# Altium schematic symbol library TI Stellaris.SchLib: 293 symbols (part 2 of 7)
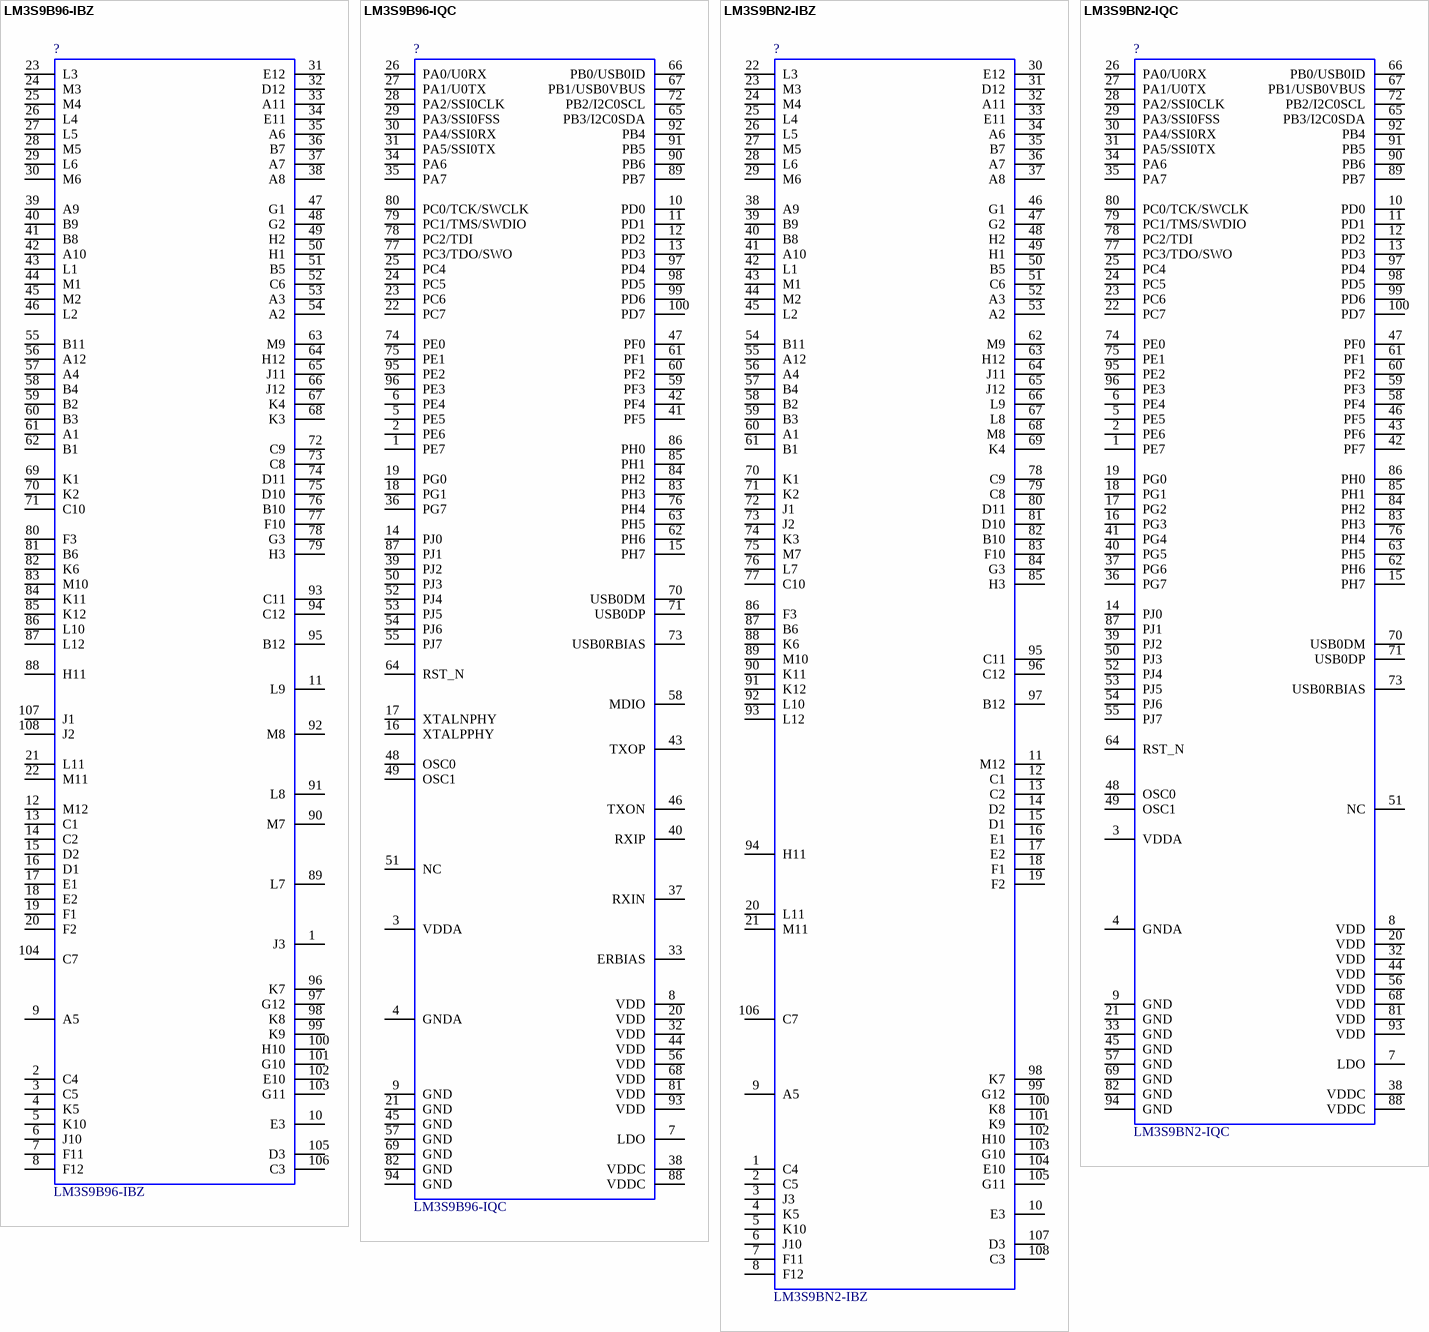
[diagram p70: symbols LM3S9B96-IBZ to LM3S9BN2-IQC]

## LM3S9BN2-IBZ
designator ?
Stellaris ARM Cortex-M3 Microcontroller; Manufacturer #1: Texas Instruments; Stellaris Class: Tempest; Part Number: LM3S9BN2-IBZ
footprint BGA108C80P12X12_1000X1000X150
pins: 1 C4, 2 C5, 3 J3, 4 K5, 5 K10, 6 J10, 7 F11, 8 F12, 9 A5, 10 E3, 11 M12, 12 C1, 13 C2, 14 D2, 15 D1, 16 E1, 17 E2, 18 F1, 19 F2, 20 L11, 21 M11, 22 L3, 23 M3, 24 M4, 25 L4, 26 L5, 27 M5, 28 L6, 29 M6, 30 E12, 31 D12, 32 A11, 33 E11, 34 A6, 35 B7, 36 A7, 37 A8, 38 A9, 39 B9, 40 B8, 41 A10, 42 L1, 43 M1, 44 M2, 45 L2, 46 G1, 47 G2, 48 H2, 49 H1, 50 B5, 51 C6, 52 A3, 53 A2, 54 B11, 55 A12, 56 A4, 57 B4, 58 B2, 59 B3, 60 A1, 61 B1, 62 M9, 63 H12, 64 J11, 65 J12, 66 L9, 67 L8, 68 M8, 69 K4, 70 K1, 71 K2, 72 J1, 73 J2, 74 K3, 75 M7, 76 L7, 77 C10, 78 C9, 79 C8, 80 D11, 81 D10, 82 B10, 83 F10, 84 G3, 85 H3, 86 F3, 87 B6, 88 K6, 89 M10, 90 K11, 91 K12, 92 L10, 93 L12, 94 H11, 95 C11, 96 C12, 97 B12, 98 K7, 99 G12, 100 K8, 101 K9, 102 H10, 103 G10, 104 E10, 105 G11, 106 C7, 107 D3, 108 C3

## LM3S9BN2-IQC
designator ?
Stellaris ARM Cortex-M3 Microcontroller; Manufacturer #1: Texas Instruments; Stellaris Class: Tempest; Part Number: LM3S9BN2-IQC
footprint QFP50P1600X1600X160-100N
pins: 1 PE7, 2 PE6, 3 VDDA, 4 GNDA, 5 PE5, 6 PE4, 7 LDO, 8 VDD, 9 GND, 10 PD0, 11 PD1, 12 PD2, 13 PD3, 14 PJ0, 15 PH7, 16 PG3, 17 PG2, 18 PG1, 19 PG0, 20 VDD, 21 GND, 22 PC7, 23 PC6, 24 PC5, 25 PC4, 26 PA0/U0RX, 27 PA1/U0TX, 28 PA2/SSI0CLK, 29 PA3/SSI0FSS, 30 PA4/SSI0RX, 31 PA5/SSI0TX, 32 VDD, 33 GND, 34 PA6, 35 PA7, 36 PG7, 37 PG6, 38 VDDC, 39 PJ2, 40 PG5, 41 PG4, 42 PF7, 43 PF6, 44 VDD, 45 GND, 46 PF5, 47 PF0, 48 OSC0, 49 OSC1, 50 PJ3, 51 NC, 52 PJ4, 53 PJ5, 54 PJ6, 55 PJ7, 56 VDD, 57 GND, 58 PF4, 59 PF3, 60 PF2, 61 PF1, 62 PH6, 63 PH5, 64 RST_N, 65 PB3/I2C0SDA, 66 PB0/USB0ID, 67 PB1/USB0VBUS, 68 VDD, 69 GND, 70 USB0DM, 71 USB0DP, 72 PB2/I2C0SCL, 73 USB0RBIAS, 74 PE0, 75 PE1, 76 PH4, 77 PC3/TDO/SWO, 78 PC2/TDI, 79 PC1/TMS/SWDIO, 80 PC0/TCK/SWCLK, 81 VDD, 82 GND, 83 PH3, 84 PH2, 85 PH1, 86 PH0, 87 PJ1, 88 VDDC, 89 PB7, 90 PB6, 91 PB5, 92 PB4, 93 VDD, 94 GND, 95 PE2, 96 PE3, 97 PD4, 98 PD5, 99 PD6, 100 PD7

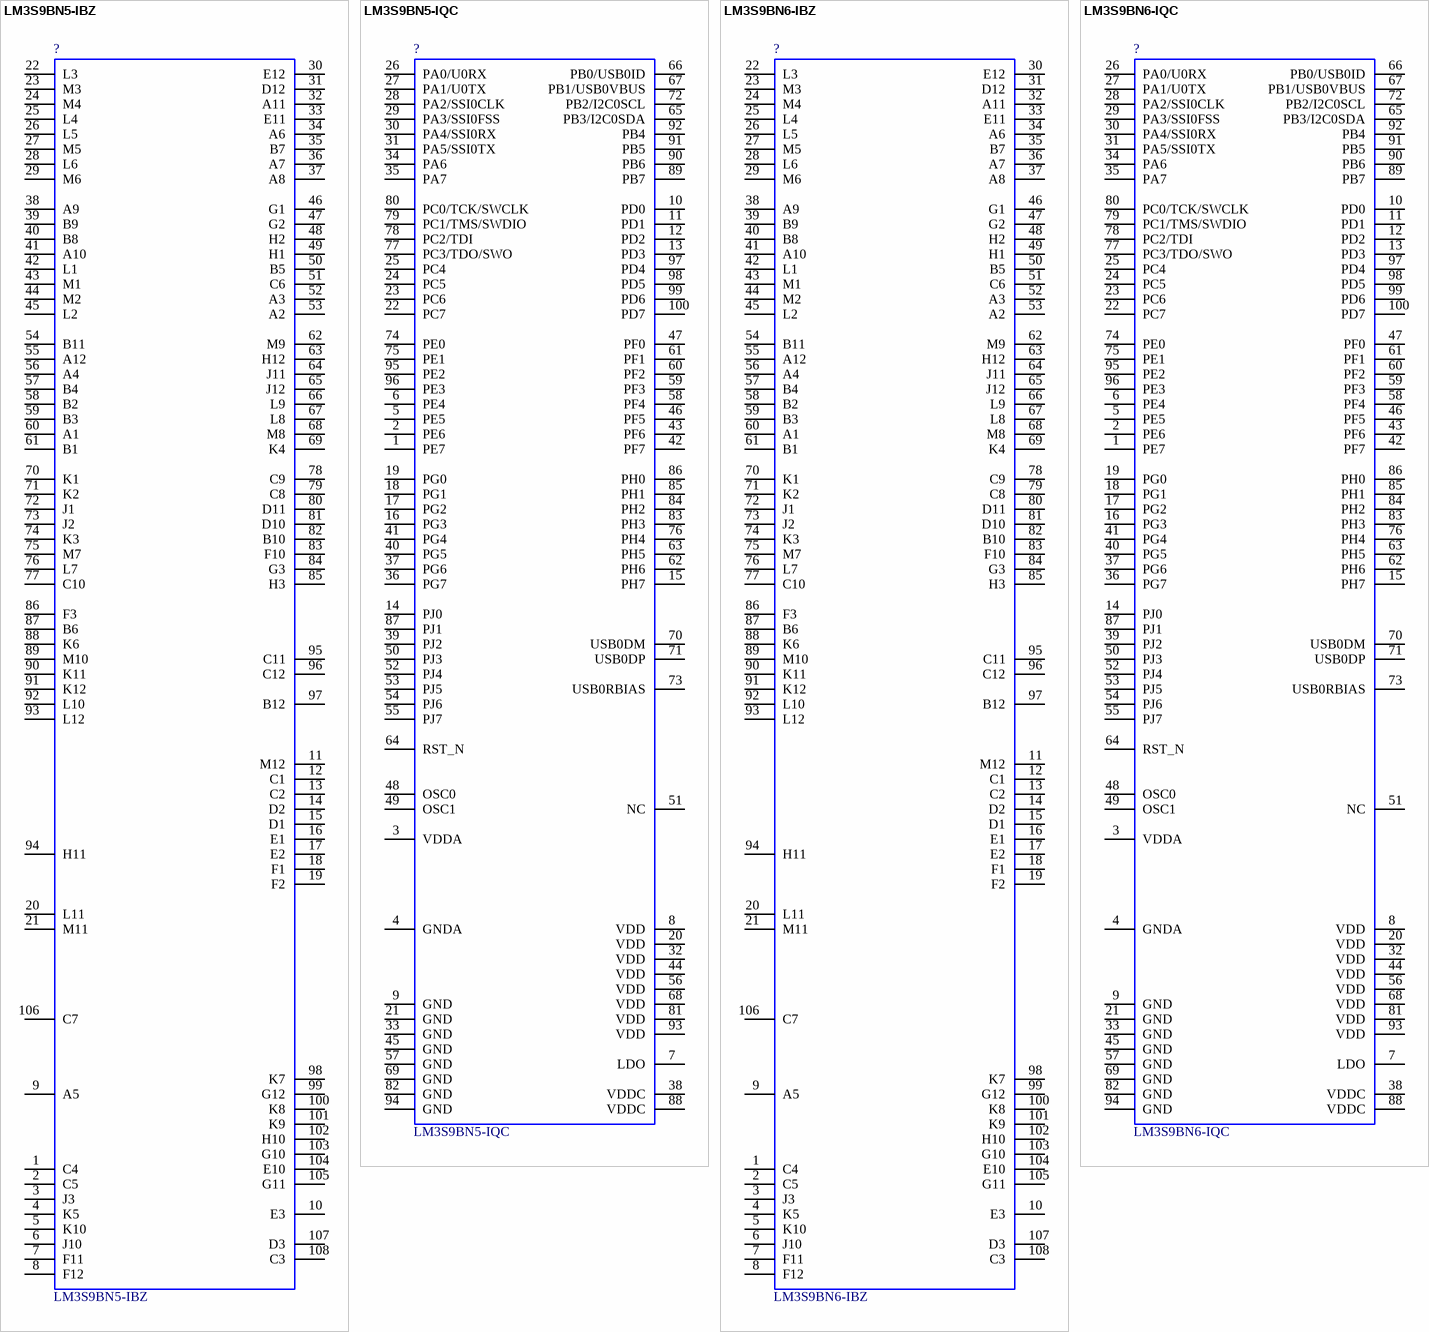
[diagram p13: symbols LM3S9BN5-IBZ to LM3S9BN6-IQC]

## LM3S9BN5-IBZ
designator ?
Stellaris ARM Cortex-M3 Microcontroller; Manufacturer #1: Texas Instruments; Stellaris Class: Tempest; Part Number: LM3S9BN5-IBZ
footprint BGA108C80P12X12_1000X1000X150
pins: 1 C4, 2 C5, 3 J3, 4 K5, 5 K10, 6 J10, 7 F11, 8 F12, 9 A5, 10 E3, 11 M12, 12 C1, 13 C2, 14 D2, 15 D1, 16 E1, 17 E2, 18 F1, 19 F2, 20 L11, 21 M11, 22 L3, 23 M3, 24 M4, 25 L4, 26 L5, 27 M5, 28 L6, 29 M6, 30 E12, 31 D12, 32 A11, 33 E11, 34 A6, 35 B7, 36 A7, 37 A8, 38 A9, 39 B9, 40 B8, 41 A10, 42 L1, 43 M1, 44 M2, 45 L2, 46 G1, 47 G2, 48 H2, 49 H1, 50 B5, 51 C6, 52 A3, 53 A2, 54 B11, 55 A12, 56 A4, 57 B4, 58 B2, 59 B3, 60 A1, 61 B1, 62 M9, 63 H12, 64 J11, 65 J12, 66 L9, 67 L8, 68 M8, 69 K4, 70 K1, 71 K2, 72 J1, 73 J2, 74 K3, 75 M7, 76 L7, 77 C10, 78 C9, 79 C8, 80 D11, 81 D10, 82 B10, 83 F10, 84 G3, 85 H3, 86 F3, 87 B6, 88 K6, 89 M10, 90 K11, 91 K12, 92 L10, 93 L12, 94 H11, 95 C11, 96 C12, 97 B12, 98 K7, 99 G12, 100 K8, 101 K9, 102 H10, 103 G10, 104 E10, 105 G11, 106 C7, 107 D3, 108 C3

## LM3S9BN5-IQC
designator ?
Stellaris ARM Cortex-M3 Microcontroller; Manufacturer #1: Texas Instruments; Stellaris Class: Tempest; Part Number: LM3S9BN5-IQC
footprint QFP50P1600X1600X160-100N
pins: 1 PE7, 2 PE6, 3 VDDA, 4 GNDA, 5 PE5, 6 PE4, 7 LDO, 8 VDD, 9 GND, 10 PD0, 11 PD1, 12 PD2, 13 PD3, 14 PJ0, 15 PH7, 16 PG3, 17 PG2, 18 PG1, 19 PG0, 20 VDD, 21 GND, 22 PC7, 23 PC6, 24 PC5, 25 PC4, 26 PA0/U0RX, 27 PA1/U0TX, 28 PA2/SSI0CLK, 29 PA3/SSI0FSS, 30 PA4/SSI0RX, 31 PA5/SSI0TX, 32 VDD, 33 GND, 34 PA6, 35 PA7, 36 PG7, 37 PG6, 38 VDDC, 39 PJ2, 40 PG5, 41 PG4, 42 PF7, 43 PF6, 44 VDD, 45 GND, 46 PF5, 47 PF0, 48 OSC0, 49 OSC1, 50 PJ3, 51 NC, 52 PJ4, 53 PJ5, 54 PJ6, 55 PJ7, 56 VDD, 57 GND, 58 PF4, 59 PF3, 60 PF2, 61 PF1, 62 PH6, 63 PH5, 64 RST_N, 65 PB3/I2C0SDA, 66 PB0/USB0ID, 67 PB1/USB0VBUS, 68 VDD, 69 GND, 70 USB0DM, 71 USB0DP, 72 PB2/I2C0SCL, 73 USB0RBIAS, 74 PE0, 75 PE1, 76 PH4, 77 PC3/TDO/SWO, 78 PC2/TDI, 79 PC1/TMS/SWDIO, 80 PC0/TCK/SWCLK, 81 VDD, 82 GND, 83 PH3, 84 PH2, 85 PH1, 86 PH0, 87 PJ1, 88 VDDC, 89 PB7, 90 PB6, 91 PB5, 92 PB4, 93 VDD, 94 GND, 95 PE2, 96 PE3, 97 PD4, 98 PD5, 99 PD6, 100 PD7

## LM3S9BN6-IBZ
designator ?
Stellaris ARM Cortex-M3 Microcontroller; Manufacturer #1: Texas Instruments; Part Number: LM3S9BN6-IQC; Stellaris Class: Tempest
footprint BGA108C80P12X12_1000X1000X150
pins: 1 C4, 2 C5, 3 J3, 4 K5, 5 K10, 6 J10, 7 F11, 8 F12, 9 A5, 10 E3, 11 M12, 12 C1, 13 C2, 14 D2, 15 D1, 16 E1, 17 E2, 18 F1, 19 F2, 20 L11, 21 M11, 22 L3, 23 M3, 24 M4, 25 L4, 26 L5, 27 M5, 28 L6, 29 M6, 30 E12, 31 D12, 32 A11, 33 E11, 34 A6, 35 B7, 36 A7, 37 A8, 38 A9, 39 B9, 40 B8, 41 A10, 42 L1, 43 M1, 44 M2, 45 L2, 46 G1, 47 G2, 48 H2, 49 H1, 50 B5, 51 C6, 52 A3, 53 A2, 54 B11, 55 A12, 56 A4, 57 B4, 58 B2, 59 B3, 60 A1, 61 B1, 62 M9, 63 H12, 64 J11, 65 J12, 66 L9, 67 L8, 68 M8, 69 K4, 70 K1, 71 K2, 72 J1, 73 J2, 74 K3, 75 M7, 76 L7, 77 C10, 78 C9, 79 C8, 80 D11, 81 D10, 82 B10, 83 F10, 84 G3, 85 H3, 86 F3, 87 B6, 88 K6, 89 M10, 90 K11, 91 K12, 92 L10, 93 L12, 94 H11, 95 C11, 96 C12, 97 B12, 98 K7, 99 G12, 100 K8, 101 K9, 102 H10, 103 G10, 104 E10, 105 G11, 106 C7, 107 D3, 108 C3

## LM3S9BN6-IQC
designator ?
Stellaris ARM Cortex-M3 Microcontroller; Manufacturer #1: Texas Instruments; Stellaris Class: Tempest; Part Number: LM3S9BN6-IQC
footprint QFP50P1600X1600X160-100N
pins: 1 PE7, 2 PE6, 3 VDDA, 4 GNDA, 5 PE5, 6 PE4, 7 LDO, 8 VDD, 9 GND, 10 PD0, 11 PD1, 12 PD2, 13 PD3, 14 PJ0, 15 PH7, 16 PG3, 17 PG2, 18 PG1, 19 PG0, 20 VDD, 21 GND, 22 PC7, 23 PC6, 24 PC5, 25 PC4, 26 PA0/U0RX, 27 PA1/U0TX, 28 PA2/SSI0CLK, 29 PA3/SSI0FSS, 30 PA4/SSI0RX, 31 PA5/SSI0TX, 32 VDD, 33 GND, 34 PA6, 35 PA7, 36 PG7, 37 PG6, 38 VDDC, 39 PJ2, 40 PG5, 41 PG4, 42 PF7, 43 PF6, 44 VDD, 45 GND, 46 PF5, 47 PF0, 48 OSC0, 49 OSC1, 50 PJ3, 51 NC, 52 PJ4, 53 PJ5, 54 PJ6, 55 PJ7, 56 VDD, 57 GND, 58 PF4, 59 PF3, 60 PF2, 61 PF1, 62 PH6, 63 PH5, 64 RST_N, 65 PB3/I2C0SDA, 66 PB0/USB0ID, 67 PB1/USB0VBUS, 68 VDD, 69 GND, 70 USB0DM, 71 USB0DP, 72 PB2/I2C0SCL, 73 USB0RBIAS, 74 PE0, 75 PE1, 76 PH4, 77 PC3/TDO/SWO, 78 PC2/TDI, 79 PC1/TMS/SWDIO, 80 PC0/TCK/SWCLK, 81 VDD, 82 GND, 83 PH3, 84 PH2, 85 PH1, 86 PH0, 87 PJ1, 88 VDDC, 89 PB7, 90 PB6, 91 PB5, 92 PB4, 93 VDD, 94 GND, 95 PE2, 96 PE3, 97 PD4, 98 PD5, 99 PD6, 100 PD7

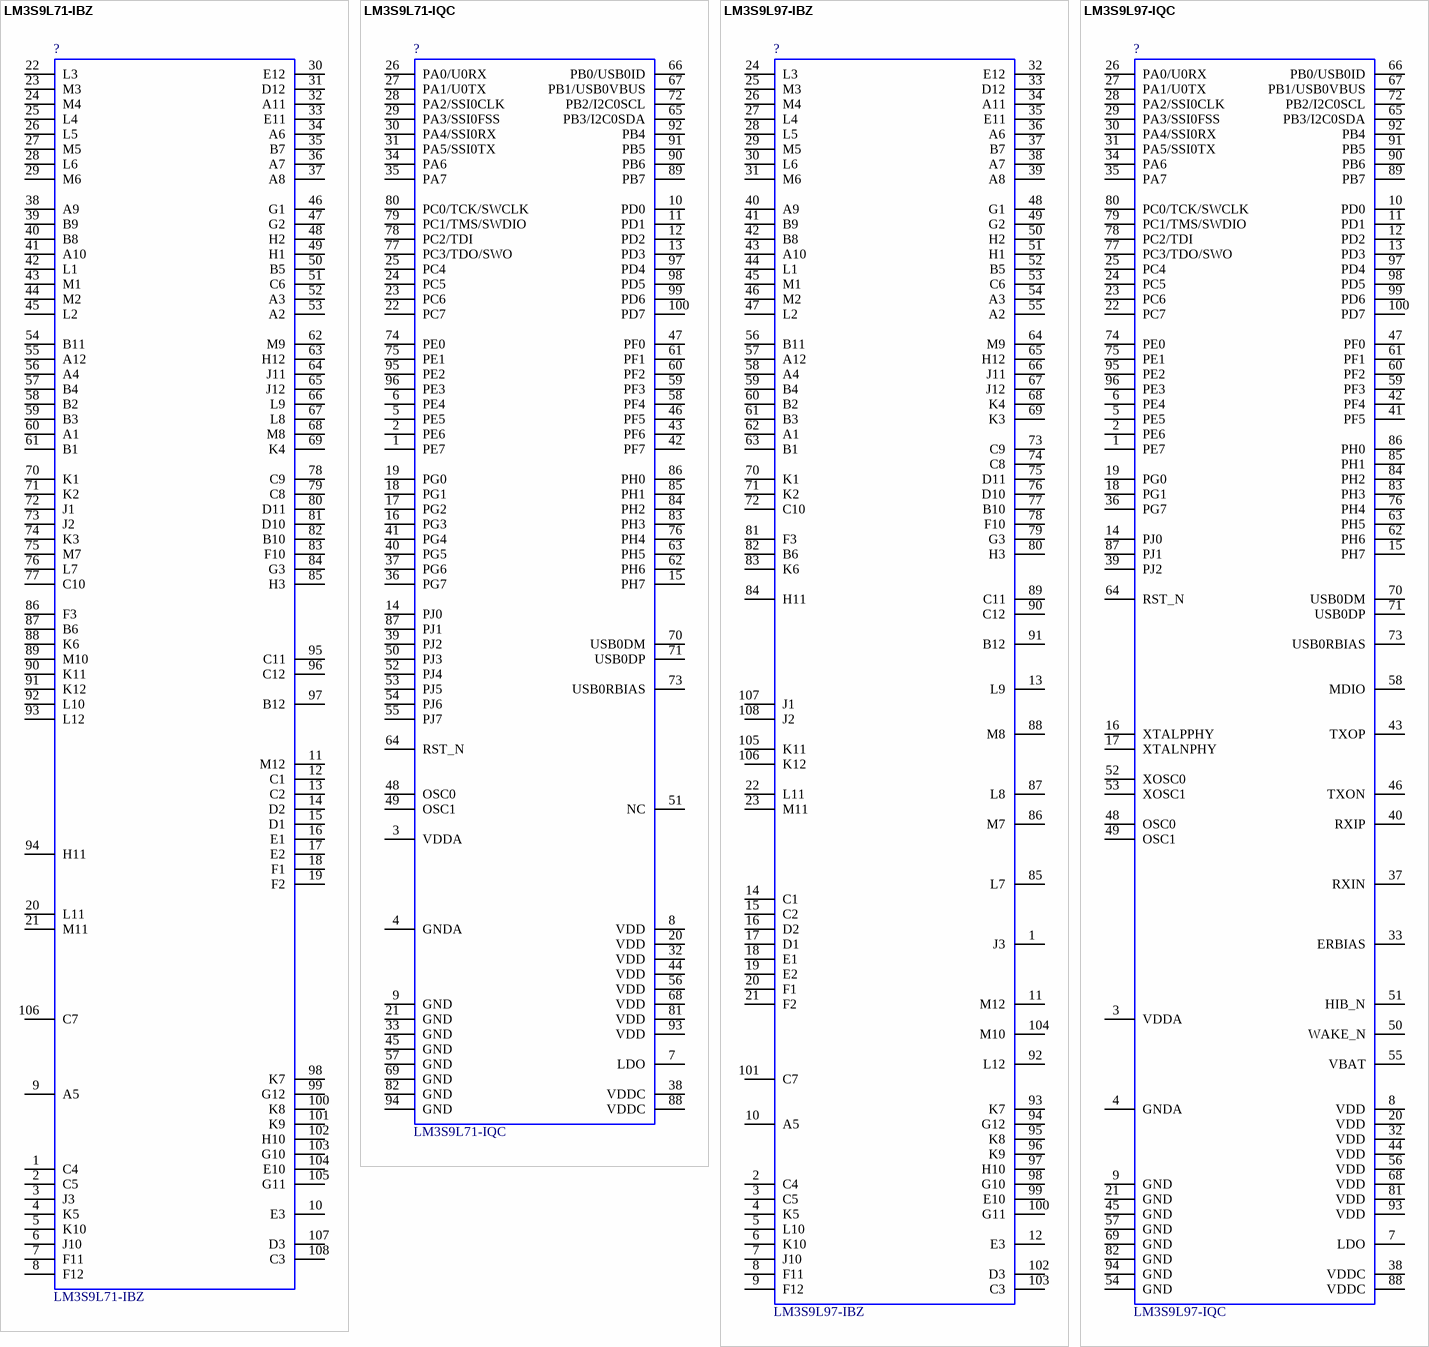
[diagram p14: symbols LM3S9L71-IBZ to LM3S9L97-IQC]

## LM3S9L71-IBZ
designator ?
Stellaris ARM Cortex-M3 Microcontroller; Manufacturer #1: Texas Instruments; Stellaris Class: Tempest; Part Number: LM3S9L71-IBZ
footprint BGA108C80P12X12_1000X1000X150
pins: 1 C4, 2 C5, 3 J3, 4 K5, 5 K10, 6 J10, 7 F11, 8 F12, 9 A5, 10 E3, 11 M12, 12 C1, 13 C2, 14 D2, 15 D1, 16 E1, 17 E2, 18 F1, 19 F2, 20 L11, 21 M11, 22 L3, 23 M3, 24 M4, 25 L4, 26 L5, 27 M5, 28 L6, 29 M6, 30 E12, 31 D12, 32 A11, 33 E11, 34 A6, 35 B7, 36 A7, 37 A8, 38 A9, 39 B9, 40 B8, 41 A10, 42 L1, 43 M1, 44 M2, 45 L2, 46 G1, 47 G2, 48 H2, 49 H1, 50 B5, 51 C6, 52 A3, 53 A2, 54 B11, 55 A12, 56 A4, 57 B4, 58 B2, 59 B3, 60 A1, 61 B1, 62 M9, 63 H12, 64 J11, 65 J12, 66 L9, 67 L8, 68 M8, 69 K4, 70 K1, 71 K2, 72 J1, 73 J2, 74 K3, 75 M7, 76 L7, 77 C10, 78 C9, 79 C8, 80 D11, 81 D10, 82 B10, 83 F10, 84 G3, 85 H3, 86 F3, 87 B6, 88 K6, 89 M10, 90 K11, 91 K12, 92 L10, 93 L12, 94 H11, 95 C11, 96 C12, 97 B12, 98 K7, 99 G12, 100 K8, 101 K9, 102 H10, 103 G10, 104 E10, 105 G11, 106 C7, 107 D3, 108 C3

## LM3S9L71-IQC
designator ?
Stellaris ARM Cortex-M3 Microcontroller; Manufacturer #1: Texas Instruments; Stellaris Class: Tempest; Part Number: LM3S9L71-IQC
footprint QFP50P1600X1600X160-100N
pins: 1 PE7, 2 PE6, 3 VDDA, 4 GNDA, 5 PE5, 6 PE4, 7 LDO, 8 VDD, 9 GND, 10 PD0, 11 PD1, 12 PD2, 13 PD3, 14 PJ0, 15 PH7, 16 PG3, 17 PG2, 18 PG1, 19 PG0, 20 VDD, 21 GND, 22 PC7, 23 PC6, 24 PC5, 25 PC4, 26 PA0/U0RX, 27 PA1/U0TX, 28 PA2/SSI0CLK, 29 PA3/SSI0FSS, 30 PA4/SSI0RX, 31 PA5/SSI0TX, 32 VDD, 33 GND, 34 PA6, 35 PA7, 36 PG7, 37 PG6, 38 VDDC, 39 PJ2, 40 PG5, 41 PG4, 42 PF7, 43 PF6, 44 VDD, 45 GND, 46 PF5, 47 PF0, 48 OSC0, 49 OSC1, 50 PJ3, 51 NC, 52 PJ4, 53 PJ5, 54 PJ6, 55 PJ7, 56 VDD, 57 GND, 58 PF4, 59 PF3, 60 PF2, 61 PF1, 62 PH6, 63 PH5, 64 RST_N, 65 PB3/I2C0SDA, 66 PB0/USB0ID, 67 PB1/USB0VBUS, 68 VDD, 69 GND, 70 USB0DM, 71 USB0DP, 72 PB2/I2C0SCL, 73 USB0RBIAS, 74 PE0, 75 PE1, 76 PH4, 77 PC3/TDO/SWO, 78 PC2/TDI, 79 PC1/TMS/SWDIO, 80 PC0/TCK/SWCLK, 81 VDD, 82 GND, 83 PH3, 84 PH2, 85 PH1, 86 PH0, 87 PJ1, 88 VDDC, 89 PB7, 90 PB6, 91 PB5, 92 PB4, 93 VDD, 94 GND, 95 PE2, 96 PE3, 97 PD4, 98 PD5, 99 PD6, 100 PD7

## LM3S9L97-IBZ
designator ?
Stellaris ARM Cortex-M3 Microcontroller; Manufacturer #1: Texas Instruments; Stellaris Class: Tempest; Part Number: LM3S9L97-IBZ
footprint BGA108C80P12X12_1000X1000X150
pins: 1 J3, 2 C4, 3 C5, 4 K5, 5 L10, 6 K10, 7 J10, 8 F11, 9 F12, 10 A5, 11 M12, 12 E3, 13 L9, 14 C1, 15 C2, 16 D2, 17 D1, 18 E1, 19 E2, 20 F1, 21 F2, 22 L11, 23 M11, 24 L3, 25 M3, 26 M4, 27 L4, 28 L5, 29 M5, 30 L6, 31 M6, 32 E12, 33 D12, 34 A11, 35 E11, 36 A6, 37 B7, 38 A7, 39 A8, 40 A9, 41 B9, 42 B8, 43 A10, 44 L1, 45 M1, 46 M2, 47 L2, 48 G1, 49 G2, 50 H2, 51 H1, 52 B5, 53 C6, 54 A3, 55 A2, 56 B11, 57 A12, 58 A4, 59 B4, 60 B2, 61 B3, 62 A1, 63 B1, 64 M9, 65 H12, 66 J11, 67 J12, 68 K4, 69 K3, 70 K1, 71 K2, 72 C10, 73 C9, 74 C8, 75 D11, 76 D10, 77 B10, 78 F10, 79 G3, 80 H3, 81 F3, 82 B6, 83 K6, 84 H11, 85 L7, 86 M7, 87 L8, 88 M8, 89 C11, 90 C12, 91 B12, 92 L12, 93 K7, 94 G12, 95 K8, 96 K9, 97 H10, 98 G10, 99 E10, 100 G11, 101 C7, 102 D3, 103 C3, 104 M10, 105 K11, 106 K12, 107 J1, 108 J2

## LM3S9L97-IQC
designator ?
Stellaris ARM Cortex-M3 Microcontroller; Manufacturer #1: Texas Instruments; Stellaris Class: Tempest; Part Number: LM3S9L97-IQC
footprint PCBNULL
pins: 1 PE7, 2 PE6, 3 VDDA, 4 GNDA, 5 PE5, 6 PE4, 7 LDO, 8 VDD, 9 GND, 10 PD0, 11 PD1, 12 PD2, 13 PD3, 14 PJ0, 15 PH7, 16 XTALPPHY, 17 XTALNPHY, 18 PG1, 19 PG0, 20 VDD, 21 GND, 22 PC7, 23 PC6, 24 PC5, 25 PC4, 26 PA0/U0RX, 27 PA1/U0TX, 28 PA2/SSI0CLK, 29 PA3/SSI0FSS, 30 PA4/SSI0RX, 31 PA5/SSI0TX, 32 VDD, 33 ERBIAS, 34 PA6, 35 PA7, 36 PG7, 37 RXIN, 38 VDDC, 39 PJ2, 40 RXIP, 41 PF5, 42 PF4, 43 TXOP, 44 VDD, 45 GND, 46 TXON, 47 PF0, 48 OSC0, 49 OSC1, 50 WAKE_N, 51 HIB_N, 52 XOSC0, 53 XOSC1, 54 GND, 55 VBAT, 56 VDD, 57 GND, 58 MDIO, 59 PF3, 60 PF2, 61 PF1, 62 PH6, 63 PH5, 64 RST_N, 65 PB3/I2C0SDA, 66 PB0/USB0ID, 67 PB1/USB0VBUS, 68 VDD, 69 GND, 70 USB0DM, 71 USB0DP, 72 PB2/I2C0SCL, 73 USB0RBIAS, 74 PE0, 75 PE1, 76 PH4, 77 PC3/TDO/SWO, 78 PC2/TDI, 79 PC1/TMS/SWDIO, 80 PC0/TCK/SWCLK, 81 VDD, 82 GND, 83 PH3, 84 PH2, 85 PH1, 86 PH0, 87 PJ1, 88 VDDC, 89 PB7, 90 PB6, 91 PB5, 92 PB4, 93 VDD, 94 GND, 95 PE2, 96 PE3, 97 PD4, 98 PD5, 99 PD6, 100 PD7

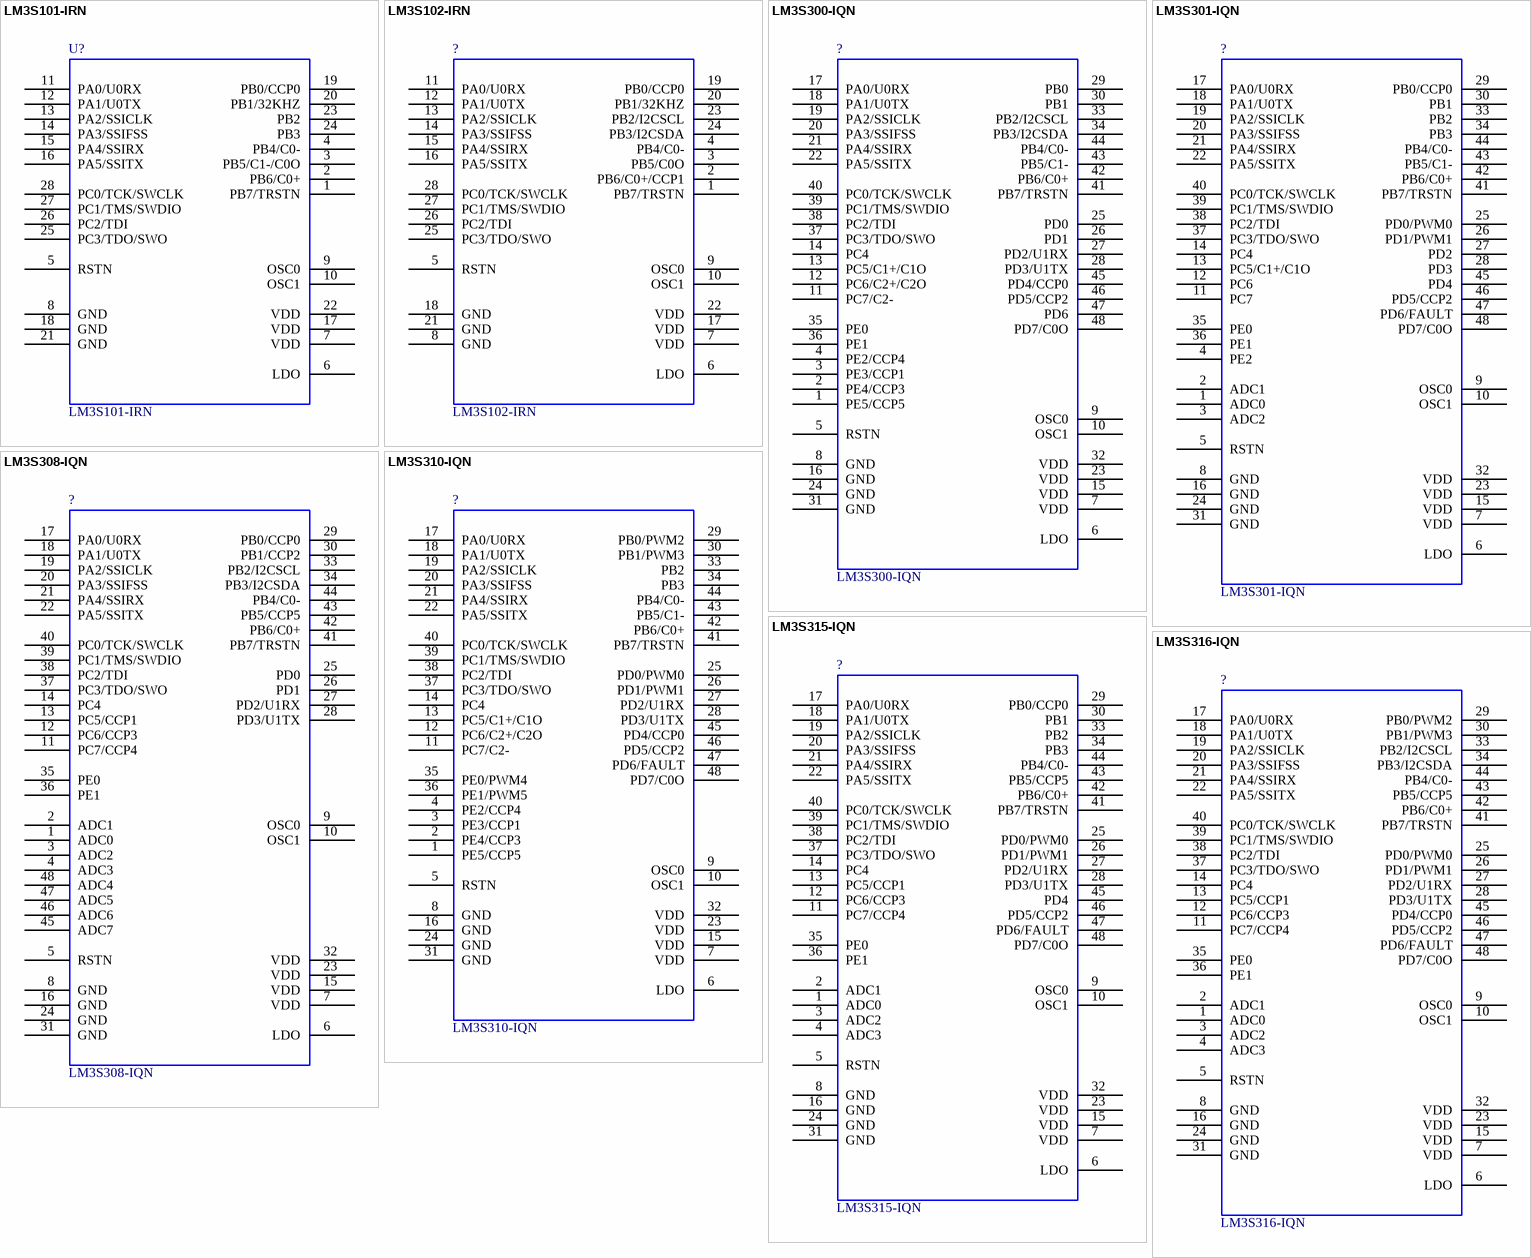
[diagram p15: symbols LM3S101-IRN to LM3S316-IQN]

## LM3S101-IRN
designator U?
Stellaris ARM Cortex-M3 Microcontroller; Manufacturer #1: Texas Instruments; Designator: U; Stellaris Class: Sandstorm; Part Number: LM3S101
footprint SOIC127P1033X265-28N
pins: 1 PB7/TRSTN, 2 PB6/C0+, 3 PB5/C1-/C0O, 4 PB4/C0-, 5 RSTN, 6 LDO, 7 VDD, 8 GND, 9 OSC0, 10 OSC1, 11 PA0/U0RX, 12 PA1/U0TX, 13 PA2/SSICLK, 14 PA3/SSIFSS, 15 PA4/SSIRX, 16 PA5/SSITX, 17 VDD, 18 GND, 19 PB0/CCP0, 20 PB1/32KHZ, 21 GND, 22 VDD, 23 PB2, 24 PB3, 25 PC3/TDO/SWO, 26 PC2/TDI, 27 PC1/TMS/SWDIO, 28 PC0/TCK/SWCLK

## LM3S102-IRN
designator ?
Stellaris ARM Cortex-M3 Microcontroller; Manufacturer #1: Texas Instruments; Designator: U; Stellaris Class: Sandstorm; Part Number: LM3S102
footprint SOIC127P1033X265-28N
pins: 1 PB7/TRSTN, 2 PB6/C0+/CCP1, 3 PB5/C0O, 4 PB4/C0-, 5 RSTN, 6 LDO, 7 VDD, 8 GND, 9 OSC0, 10 OSC1, 11 PA0/U0RX, 12 PA1/U0TX, 13 PA2/SSICLK, 14 PA3/SSIFSS, 15 PA4/SSIRX, 16 PA5/SSITX, 17 VDD, 18 GND, 19 PB0/CCP0, 20 PB1/32KHZ, 21 GND, 22 VDD, 23 PB2/I2CSCL, 24 PB3/I2CSDA, 25 PC3/TDO/SWO, 26 PC2/TDI, 27 PC1/TMS/SWDIO, 28 PC0/TCK/SWCLK

## LM3S300-IQN
designator ?
Stellaris ARM Cortex-M3 Microcontroller; Manufacturer #1: Luminary Micro; LMI Class: Sandstorm; Designator: U; Part Number: LM3S300
footprint QFP50P900X900X160-48N
pins: 1 PE5/CCP5, 2 PE4/CCP3, 3 PE3/CCP1, 4 PE2/CCP4, 5 RSTN, 6 LDO, 7 VDD, 8 GND, 9 OSC0, 10 OSC1, 11 PC7/C2-, 12 PC6/C2+/C2O, 13 PC5/C1+/C1O, 14 PC4, 15 VDD, 16 GND, 17 PA0/U0RX, 18 PA1/U0TX, 19 PA2/SSICLK, 20 PA3/SSIFSS, 21 PA4/SSIRX, 22 PA5/SSITX, 23 VDD, 24 GND, 25 PD0, 26 PD1, 27 PD2/U1RX, 28 PD3/U1TX, 29 PB0, 30 PB1, 31 GND, 32 VDD, 33 PB2/I2CSCL, 34 PB3/I2CSDA, 35 PE0, 36 PE1, 37 PC3/TDO/SWO, 38 PC2/TDI, 39 PC1/TMS/SWDIO, 40 PC0/TCK/SWCLK, 41 PB7/TRSTN, 42 PB6/C0+, 43 PB5/C1-, 44 PB4/C0-, 45 PD4/CCP0, 46 PD5/CCP2, 47 PD6, 48 PD7/C0O

## LM3S301-IQN
designator ?
Stellaris ARM Cortex-M3 Microcontroller; Manufacturer #1: Luminary Micro; LMI Class: Sandstorm; Designator: U; Part Number: LM3S301
footprint QFP50P900X900X160-48N
pins: 1 ADC0, 2 ADC1, 3 ADC2, 4 PE2, 5 RSTN, 6 LDO, 7 VDD, 8 GND, 9 OSC0, 10 OSC1, 11 PC7, 12 PC6, 13 PC5/C1+/C1O, 14 PC4, 15 VDD, 16 GND, 17 PA0/U0RX, 18 PA1/U0TX, 19 PA2/SSICLK, 20 PA3/SSIFSS, 21 PA4/SSIRX, 22 PA5/SSITX, 23 VDD, 24 GND, 25 PD0/PWM0, 26 PD1/PWM1, 27 PD2, 28 PD3, 29 PB0/CCP0, 30 PB1, 31 GND, 32 VDD, 33 PB2, 34 PB3, 35 PE0, 36 PE1, 37 PC3/TDO/SWO, 38 PC2/TDI, 39 PC1/TMS/SWDIO, 40 PC0/TCK/SWCLK, 41 PB7/TRSTN, 42 PB6/C0+, 43 PB5/C1-, 44 PB4/C0-, 45 PD4, 46 PD5/CCP2, 47 PD6/FAULT, 48 PD7/C0O

## LM3S308-IQN
designator ?
Stellaris ARM Cortex-M3 Microcontroller; Manufacturer #1: Luminary Micro; LMI Class: Sandstorm; Designator: U; Part Number: LM3S308
footprint QFP50P900X900X160-48N
pins: 1 ADC0, 2 ADC1, 3 ADC2, 4 ADC3, 5 RSTN, 6 LDO, 7 VDD, 8 GND, 9 OSC0, 10 OSC1, 11 PC7/CCP4, 12 PC6/CCP3, 13 PC5/CCP1, 14 PC4, 15 VDD, 16 GND, 17 PA0/U0RX, 18 PA1/U0TX, 19 PA2/SSICLK, 20 PA3/SSIFSS, 21 PA4/SSIRX, 22 PA5/SSITX, 23 VDD, 24 GND, 25 PD0, 26 PD1, 27 PD2/U1RX, 28 PD3/U1TX, 29 PB0/CCP0, 30 PB1/CCP2, 31 GND, 32 VDD, 33 PB2/I2CSCL, 34 PB3/I2CSDA, 35 PE0, 36 PE1, 37 PC3/TDO/SWO, 38 PC2/TDI, 39 PC1/TMS/SWDIO, 40 PC0/TCK/SWCLK, 41 PB7/TRSTN, 42 PB6/C0+, 43 PB5/CCP5, 44 PB4/C0-, 45 ADC7, 46 ADC6, 47 ADC5, 48 ADC4

## LM3S310-IQN
designator ?
Stellaris ARM Cortex-M3 Microcontroller; Manufacturer #1: Luminary Micro; LMI Class: Sandstorm; Designator: U; Part Number: LM3S310
footprint QFP50P900X900X160-48N
pins: 1 PE5/CCP5, 2 PE4/CCP3, 3 PE3/CCP1, 4 PE2/CCP4, 5 RSTN, 6 LDO, 7 VDD, 8 GND, 9 OSC0, 10 OSC1, 11 PC7/C2-, 12 PC6/C2+/C2O, 13 PC5/C1+/C1O, 14 PC4, 15 VDD, 16 GND, 17 PA0/U0RX, 18 PA1/U0TX, 19 PA2/SSICLK, 20 PA3/SSIFSS, 21 PA4/SSIRX, 22 PA5/SSITX, 23 VDD, 24 GND, 25 PD0/PWM0, 26 PD1/PWM1, 27 PD2/U1RX, 28 PD3/U1TX, 29 PB0/PWM2, 30 PB1/PWM3, 31 GND, 32 VDD, 33 PB2, 34 PB3, 35 PE0/PWM4, 36 PE1/PWM5, 37 PC3/TDO/SWO, 38 PC2/TDI, 39 PC1/TMS/SWDIO, 40 PC0/TCK/SWCLK, 41 PB7/TRSTN, 42 PB6/C0+, 43 PB5/C1-, 44 PB4/C0-, 45 PD4/CCP0, 46 PD5/CCP2, 47 PD6/FAULT, 48 PD7/C0O

## LM3S315-IQN
designator ?
Stellaris ARM Cortex-M3 Microcontroller; Manufacturer #1: Luminary Micro; LMI Class: Sandstorm; Designator: U; Part Number: LM3S315
footprint QFP50P900X900X160-48N
pins: 1 ADC0, 2 ADC1, 3 ADC2, 4 ADC3, 5 RSTN, 6 LDO, 7 VDD, 8 GND, 9 OSC0, 10 OSC1, 11 PC7/CCP4, 12 PC6/CCP3, 13 PC5/CCP1, 14 PC4, 15 VDD, 16 GND, 17 PA0/U0RX, 18 PA1/U0TX, 19 PA2/SSICLK, 20 PA3/SSIFSS, 21 PA4/SSIRX, 22 PA5/SSITX, 23 VDD, 24 GND, 25 PD0/PWM0, 26 PD1/PWM1, 27 PD2/U1RX, 28 PD3/U1TX, 29 PB0/CCP0, 30 PB1, 31 GND, 32 VDD, 33 PB2, 34 PB3, 35 PE0, 36 PE1, 37 PC3/TDO/SWO, 38 PC2/TDI, 39 PC1/TMS/SWDIO, 40 PC0/TCK/SWCLK, 41 PB7/TRSTN, 42 PB6/C0+, 43 PB5/CCP5, 44 PB4/C0-, 45 PD4, 46 PD5/CCP2, 47 PD6/FAULT, 48 PD7/C0O

## LM3S316-IQN
designator ?
Stellaris ARM Cortex-M3 Microcontroller; Manufacturer #1: Luminary Micro; LMI Class: Sandstorm; Designator: U; Part Number: LM3S316
footprint QFP50P900X900X160-48N
pins: 1 ADC0, 2 ADC1, 3 ADC2, 4 ADC3, 5 RSTN, 6 LDO, 7 VDD, 8 GND, 9 OSC0, 10 OSC1, 11 PC7/CCP4, 12 PC6/CCP3, 13 PC5/CCP1, 14 PC4, 15 VDD, 16 GND, 17 PA0/U0RX, 18 PA1/U0TX, 19 PA2/SSICLK, 20 PA3/SSIFSS, 21 PA4/SSIRX, 22 PA5/SSITX, 23 VDD, 24 GND, 25 PD0/PWM0, 26 PD1/PWM1, 27 PD2/U1RX, 28 PD3/U1TX, 29 PB0/PWM2, 30 PB1/PWM3, 31 GND, 32 VDD, 33 PB2/I2CSCL, 34 PB3/I2CSDA, 35 PE0, 36 PE1, 37 PC3/TDO/SWO, 38 PC2/TDI, 39 PC1/TMS/SWDIO, 40 PC0/TCK/SWCLK, 41 PB7/TRSTN, 42 PB6/C0+, 43 PB5/CCP5, 44 PB4/C0-, 45 PD4/CCP0, 46 PD5/CCP2, 47 PD6/FAULT, 48 PD7/C0O

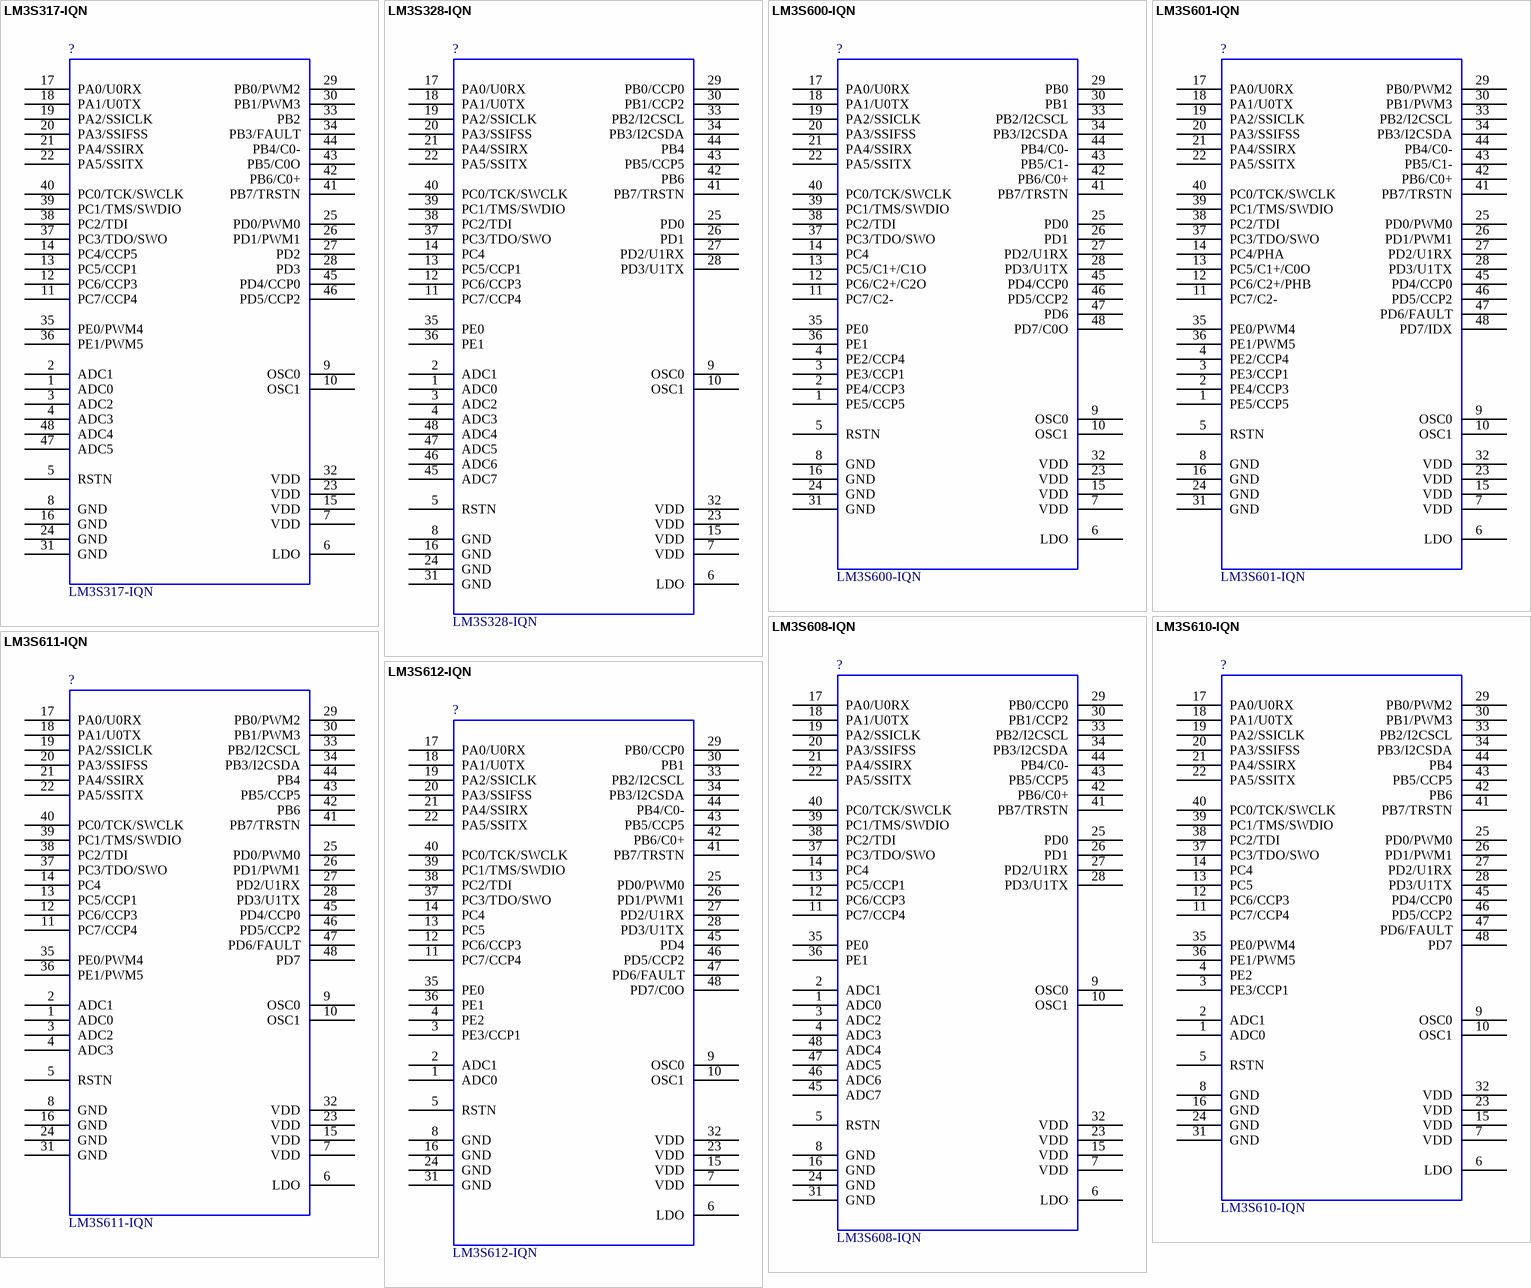
[diagram p16: symbols LM3S317-IQN to LM3S612-IQN]

## LM3S317-IQN
designator ?
Stellaris ARM Cortex-M3 Microcontroller; Manufacturer #1: Luminary Micro; LMI Class: Sandstorm; Designator: U; Part Number: LM3S317
footprint QFP50P900X900X160-48N
pins: 1 ADC0, 2 ADC1, 3 ADC2, 4 ADC3, 5 RSTN, 6 LDO, 7 VDD, 8 GND, 9 OSC0, 10 OSC1, 11 PC7/CCP4, 12 PC6/CCP3, 13 PC5/CCP1, 14 PC4/CCP5, 15 VDD, 16 GND, 17 PA0/U0RX, 18 PA1/U0TX, 19 PA2/SSICLK, 20 PA3/SSIFSS, 21 PA4/SSIRX, 22 PA5/SSITX, 23 VDD, 24 GND, 25 PD0/PWM0, 26 PD1/PWM1, 27 PD2, 28 PD3, 29 PB0/PWM2, 30 PB1/PWM3, 31 GND, 32 VDD, 33 PB2, 34 PB3/FAULT, 35 PE0/PWM4, 36 PE1/PWM5, 37 PC3/TDO/SWO, 38 PC2/TDI, 39 PC1/TMS/SWDIO, 40 PC0/TCK/SWCLK, 41 PB7/TRSTN, 42 PB6/C0+, 43 PB5/C0O, 44 PB4/C0-, 45 PD4/CCP0, 46 PD5/CCP2, 47 ADC5, 48 ADC4

## LM3S328-IQN
designator ?
Stellaris ARM Cortex-M3 Microcontroller; Manufacturer #1: Luminary Micro; LMI Class: Sandstorm; Designator: U; Part Number: LM3S328
footprint QFP50P900X900X160-48N
pins: 1 ADC0, 2 ADC1, 3 ADC2, 4 ADC3, 5 RSTN, 6 LDO, 7 VDD, 8 GND, 9 OSC0, 10 OSC1, 11 PC7/CCP4, 12 PC6/CCP3, 13 PC5/CCP1, 14 PC4, 15 VDD, 16 GND, 17 PA0/U0RX, 18 PA1/U0TX, 19 PA2/SSICLK, 20 PA3/SSIFSS, 21 PA4/SSIRX, 22 PA5/SSITX, 23 VDD, 24 GND, 25 PD0, 26 PD1, 27 PD2/U1RX, 28 PD3/U1TX, 29 PB0/CCP0, 30 PB1/CCP2, 31 GND, 32 VDD, 33 PB2/I2CSCL, 34 PB3/I2CSDA, 35 PE0, 36 PE1, 37 PC3/TDO/SWO, 38 PC2/TDI, 39 PC1/TMS/SWDIO, 40 PC0/TCK/SWCLK, 41 PB7/TRSTN, 42 PB6, 43 PB5/CCP5, 44 PB4, 45 ADC7, 46 ADC6, 47 ADC5, 48 ADC4

## LM3S600-IQN
designator ?
Stellaris ARM Cortex-M3 Microcontroller; Manufacturer #1: Luminary Micro; LMI Class: Sandstorm; Designator: U; Part Number: LM3S600
footprint QFP50P900X900X160-48N
pins: 1 PE5/CCP5, 2 PE4/CCP3, 3 PE3/CCP1, 4 PE2/CCP4, 5 RSTN, 6 LDO, 7 VDD, 8 GND, 9 OSC0, 10 OSC1, 11 PC7/C2-, 12 PC6/C2+/C2O, 13 PC5/C1+/C1O, 14 PC4, 15 VDD, 16 GND, 17 PA0/U0RX, 18 PA1/U0TX, 19 PA2/SSICLK, 20 PA3/SSIFSS, 21 PA4/SSIRX, 22 PA5/SSITX, 23 VDD, 24 GND, 25 PD0, 26 PD1, 27 PD2/U1RX, 28 PD3/U1TX, 29 PB0, 30 PB1, 31 GND, 32 VDD, 33 PB2/I2CSCL, 34 PB3/I2CSDA, 35 PE0, 36 PE1, 37 PC3/TDO/SWO, 38 PC2/TDI, 39 PC1/TMS/SWDIO, 40 PC0/TCK/SWCLK, 41 PB7/TRSTN, 42 PB6/C0+, 43 PB5/C1-, 44 PB4/C0-, 45 PD4/CCP0, 46 PD5/CCP2, 47 PD6, 48 PD7/C0O

## LM3S601-IQN
designator ?
Stellaris ARM Cortex-M3 Microcontroller; Manufacturer #1: Luminary Micro; LMI Class: Sandstorm; Designator: U; Part Number: LM3S601
footprint QFP50P900X900X160-48N
pins: 1 PE5/CCP5, 2 PE4/CCP3, 3 PE3/CCP1, 4 PE2/CCP4, 5 RSTN, 6 LDO, 7 VDD, 8 GND, 9 OSC0, 10 OSC1, 11 PC7/C2-, 12 PC6/C2+/PHB, 13 PC5/C1+/C0O, 14 PC4/PHA, 15 VDD, 16 GND, 17 PA0/U0RX, 18 PA1/U0TX, 19 PA2/SSICLK, 20 PA3/SSIFSS, 21 PA4/SSIRX, 22 PA5/SSITX, 23 VDD, 24 GND, 25 PD0/PWM0, 26 PD1/PWM1, 27 PD2/U1RX, 28 PD3/U1TX, 29 PB0/PWM2, 30 PB1/PWM3, 31 GND, 32 VDD, 33 PB2/I2CSCL, 34 PB3/I2CSDA, 35 PE0/PWM4, 36 PE1/PWM5, 37 PC3/TDO/SWO, 38 PC2/TDI, 39 PC1/TMS/SWDIO, 40 PC0/TCK/SWCLK, 41 PB7/TRSTN, 42 PB6/C0+, 43 PB5/C1-, 44 PB4/C0-, 45 PD4/CCP0, 46 PD5/CCP2, 47 PD6/FAULT, 48 PD7/IDX

## LM3S608-IQN
designator ?
Stellaris ARM Cortex-M3 Microcontroller; Manufacturer #1: Luminary Micro; LMI Class: Sandstorm; Designator: U; Part Number: LM3S608
footprint QFP50P900X900X160-48N
pins: 1 ADC0, 2 ADC1, 3 ADC2, 4 ADC3, 5 RSTN, 6 LDO, 7 VDD, 8 GND, 9 OSC0, 10 OSC1, 11 PC7/CCP4, 12 PC6/CCP3, 13 PC5/CCP1, 14 PC4, 15 VDD, 16 GND, 17 PA0/U0RX, 18 PA1/U0TX, 19 PA2/SSICLK, 20 PA3/SSIFSS, 21 PA4/SSIRX, 22 PA5/SSITX, 23 VDD, 24 GND, 25 PD0, 26 PD1, 27 PD2/U1RX, 28 PD3/U1TX, 29 PB0/CCP0, 30 PB1/CCP2, 31 GND, 32 VDD, 33 PB2/I2CSCL, 34 PB3/I2CSDA, 35 PE0, 36 PE1, 37 PC3/TDO/SWO, 38 PC2/TDI, 39 PC1/TMS/SWDIO, 40 PC0/TCK/SWCLK, 41 PB7/TRSTN, 42 PB6/C0+, 43 PB5/CCP5, 44 PB4/C0-, 45 ADC7, 46 ADC6, 47 ADC5, 48 ADC4

## LM3S610-IQN
designator ?
Stellaris ARM Cortex-M3 Microcontroller; Manufacturer #1: Luminary Micro; LMI Class: Sandstorm; Designator: U; Part Number: LM3S610
footprint QFP50P900X900X160-48N
pins: 1 ADC0, 2 ADC1, 3 PE3/CCP1, 4 PE2, 5 RSTN, 6 LDO, 7 VDD, 8 GND, 9 OSC0, 10 OSC1, 11 PC7/CCP4, 12 PC6/CCP3, 13 PC5, 14 PC4, 15 VDD, 16 GND, 17 PA0/U0RX, 18 PA1/U0TX, 19 PA2/SSICLK, 20 PA3/SSIFSS, 21 PA4/SSIRX, 22 PA5/SSITX, 23 VDD, 24 GND, 25 PD0/PWM0, 26 PD1/PWM1, 27 PD2/U1RX, 28 PD3/U1TX, 29 PB0/PWM2, 30 PB1/PWM3, 31 GND, 32 VDD, 33 PB2/I2CSCL, 34 PB3/I2CSDA, 35 PE0/PWM4, 36 PE1/PWM5, 37 PC3/TDO/SWO, 38 PC2/TDI, 39 PC1/TMS/SWDIO, 40 PC0/TCK/SWCLK, 41 PB7/TRSTN, 42 PB6, 43 PB5/CCP5, 44 PB4, 45 PD4/CCP0, 46 PD5/CCP2, 47 PD6/FAULT, 48 PD7

## LM3S611-IQN
designator ?
Stellaris ARM Cortex-M3 Microcontroller; Manufacturer #1: Luminary Micro; LMI Class: Sandstorm; Designator: U; Part Number: LM3S611
footprint QFP50P900X900X160-48N
pins: 1 ADC0, 2 ADC1, 3 ADC2, 4 ADC3, 5 RSTN, 6 LDO, 7 VDD, 8 GND, 9 OSC0, 10 OSC1, 11 PC7/CCP4, 12 PC6/CCP3, 13 PC5/CCP1, 14 PC4, 15 VDD, 16 GND, 17 PA0/U0RX, 18 PA1/U0TX, 19 PA2/SSICLK, 20 PA3/SSIFSS, 21 PA4/SSIRX, 22 PA5/SSITX, 23 VDD, 24 GND, 25 PD0/PWM0, 26 PD1/PWM1, 27 PD2/U1RX, 28 PD3/U1TX, 29 PB0/PWM2, 30 PB1/PWM3, 31 GND, 32 VDD, 33 PB2/I2CSCL, 34 PB3/I2CSDA, 35 PE0/PWM4, 36 PE1/PWM5, 37 PC3/TDO/SWO, 38 PC2/TDI, 39 PC1/TMS/SWDIO, 40 PC0/TCK/SWCLK, 41 PB7/TRSTN, 42 PB6, 43 PB5/CCP5, 44 PB4, 45 PD4/CCP0, 46 PD5/CCP2, 47 PD6/FAULT, 48 PD7

## LM3S612-IQN
designator ?
Stellaris ARM Cortex-M3 Microcontroller; Manufacturer #1: Luminary Micro; LMI Class: Sandstorm; Designator: U; Part Number: LM3S612
footprint QFP50P900X900X160-48N
pins: 1 ADC0, 2 ADC1, 3 PE3/CCP1, 4 PE2, 5 RSTN, 6 LDO, 7 VDD, 8 GND, 9 OSC0, 10 OSC1, 11 PC7/CCP4, 12 PC6/CCP3, 13 PC5, 14 PC4, 15 VDD, 16 GND, 17 PA0/U0RX, 18 PA1/U0TX, 19 PA2/SSICLK, 20 PA3/SSIFSS, 21 PA4/SSIRX, 22 PA5/SSITX, 23 VDD, 24 GND, 25 PD0/PWM0, 26 PD1/PWM1, 27 PD2/U1RX, 28 PD3/U1TX, 29 PB0/CCP0, 30 PB1, 31 GND, 32 VDD, 33 PB2/I2CSCL, 34 PB3/I2CSDA, 35 PE0, 36 PE1, 37 PC3/TDO/SWO, 38 PC2/TDI, 39 PC1/TMS/SWDIO, 40 PC0/TCK/SWCLK, 41 PB7/TRSTN, 42 PB6/C0+, 43 PB5/CCP5, 44 PB4/C0-, 45 PD4, 46 PD5/CCP2, 47 PD6/FAULT, 48 PD7/C0O

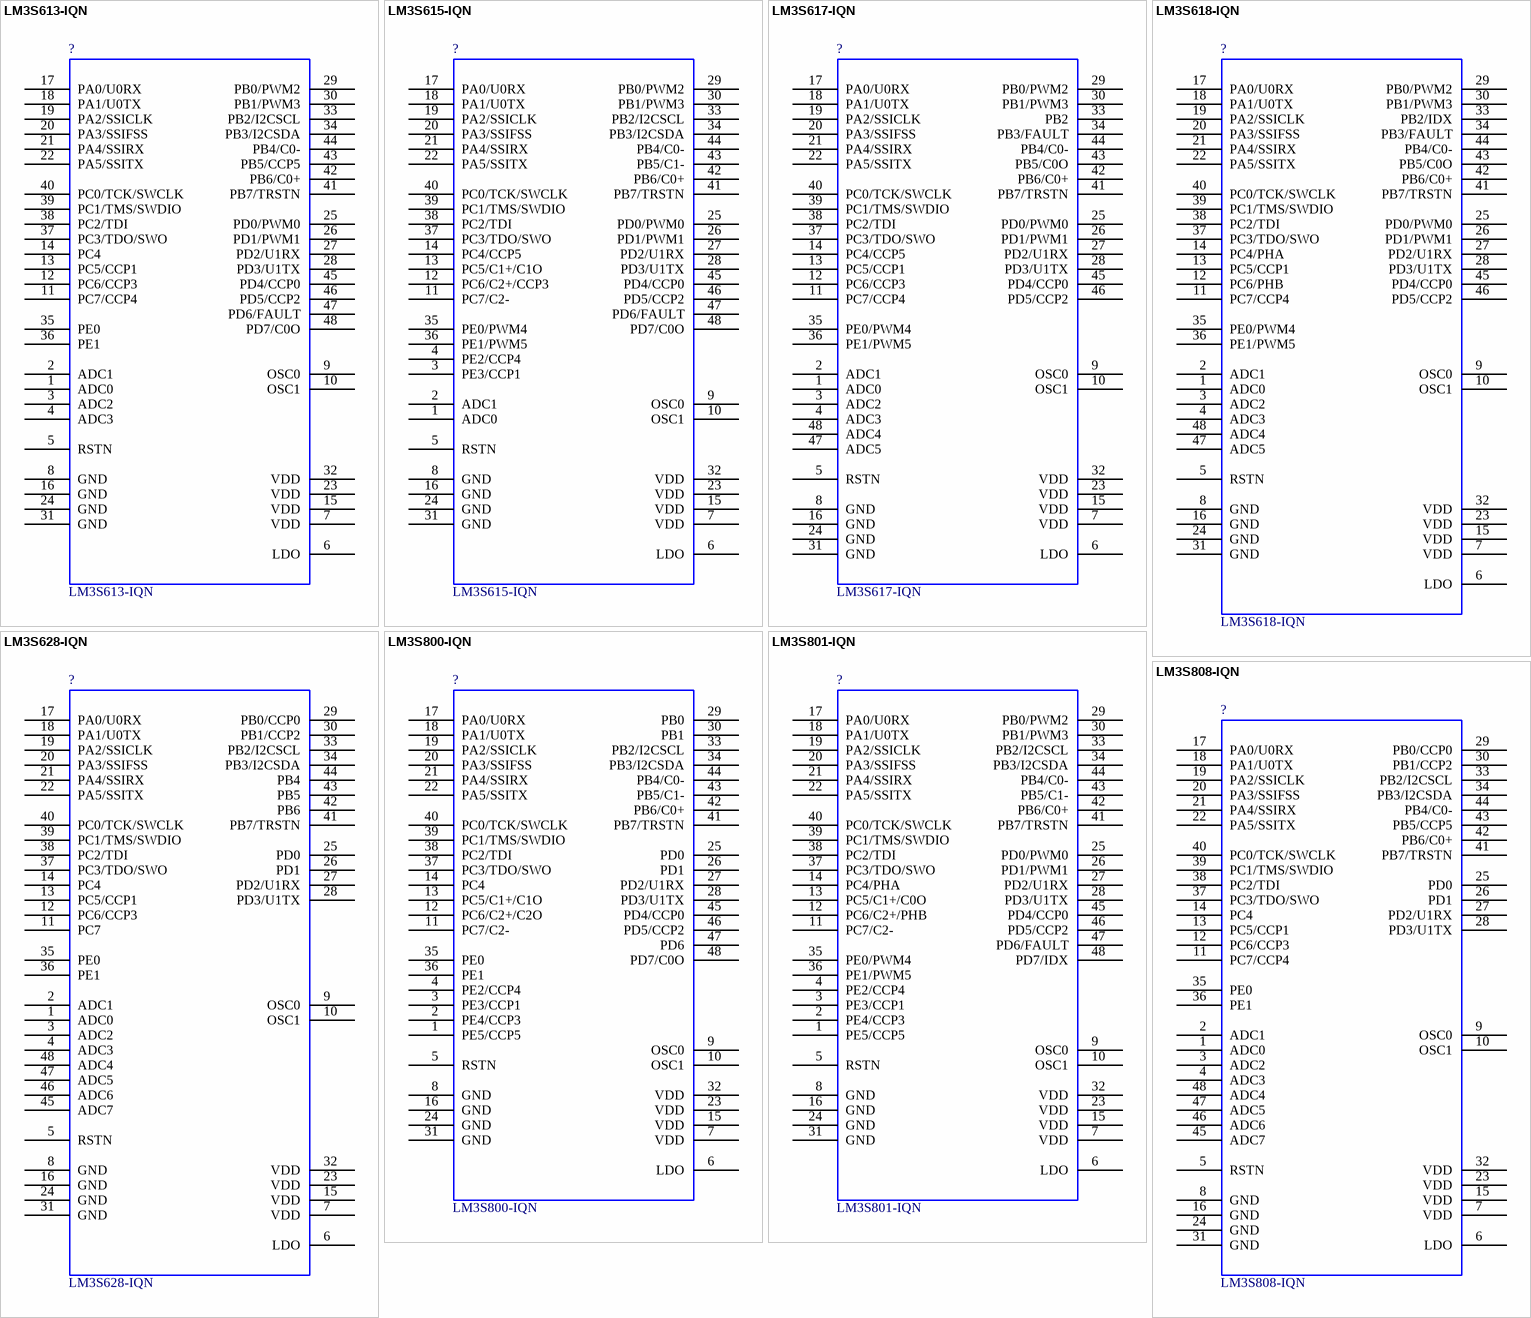
[diagram p17: symbols LM3S613-IQN to LM3S808-IQN]

## LM3S613-IQN
designator ?
Stellaris ARM Cortex-M3 Microcontroller; Manufacturer #1: Luminary Micro; LMI Class: Sandstorm; Designator: U; Part Number: LM3S613
footprint QFP50P900X900X160-48N
pins: 1 ADC0, 2 ADC1, 3 ADC2, 4 ADC3, 5 RSTN, 6 LDO, 7 VDD, 8 GND, 9 OSC0, 10 OSC1, 11 PC7/CCP4, 12 PC6/CCP3, 13 PC5/CCP1, 14 PC4, 15 VDD, 16 GND, 17 PA0/U0RX, 18 PA1/U0TX, 19 PA2/SSICLK, 20 PA3/SSIFSS, 21 PA4/SSIRX, 22 PA5/SSITX, 23 VDD, 24 GND, 25 PD0/PWM0, 26 PD1/PWM1, 27 PD2/U1RX, 28 PD3/U1TX, 29 PB0/PWM2, 30 PB1/PWM3, 31 GND, 32 VDD, 33 PB2/I2CSCL, 34 PB3/I2CSDA, 35 PE0, 36 PE1, 37 PC3/TDO/SWO, 38 PC2/TDI, 39 PC1/TMS/SWDIO, 40 PC0/TCK/SWCLK, 41 PB7/TRSTN, 42 PB6/C0+, 43 PB5/CCP5, 44 PB4/C0-, 45 PD4/CCP0, 46 PD5/CCP2, 47 PD6/FAULT, 48 PD7/C0O

## LM3S615-IQN
designator ?
Stellaris ARM Cortex-M3 Microcontroller; Manufacturer #1: Luminary Micro; LMI Class: Sandstorm; Designator: U; Part Number: LM3S615
footprint QFP50P900X900X160-48N
pins: 1 ADC0, 2 ADC1, 3 PE3/CCP1, 4 PE2/CCP4, 5 RSTN, 6 LDO, 7 VDD, 8 GND, 9 OSC0, 10 OSC1, 11 PC7/C2-, 12 PC6/C2+/CCP3, 13 PC5/C1+/C1O, 14 PC4/CCP5, 15 VDD, 16 GND, 17 PA0/U0RX, 18 PA1/U0TX, 19 PA2/SSICLK, 20 PA3/SSIFSS, 21 PA4/SSIRX, 22 PA5/SSITX, 23 VDD, 24 GND, 25 PD0/PWM0, 26 PD1/PWM1, 27 PD2/U1RX, 28 PD3/U1TX, 29 PB0/PWM2, 30 PB1/PWM3, 31 GND, 32 VDD, 33 PB2/I2CSCL, 34 PB3/I2CSDA, 35 PE0/PWM4, 36 PE1/PWM5, 37 PC3/TDO/SWO, 38 PC2/TDI, 39 PC1/TMS/SWDIO, 40 PC0/TCK/SWCLK, 41 PB7/TRSTN, 42 PB6/C0+, 43 PB5/C1-, 44 PB4/C0-, 45 PD4/CCP0, 46 PD5/CCP2, 47 PD6/FAULT, 48 PD7/C0O

## LM3S617-IQN
designator ?
Stellaris ARM Cortex-M3 Microcontroller; Manufacturer #1: Luminary Micro; LMI Class: Sandstorm; Designator: U; Part Number: LM3S617
footprint QFP50P900X900X160-48N
pins: 1 ADC0, 2 ADC1, 3 ADC2, 4 ADC3, 5 RSTN, 6 LDO, 7 VDD, 8 GND, 9 OSC0, 10 OSC1, 11 PC7/CCP4, 12 PC6/CCP3, 13 PC5/CCP1, 14 PC4/CCP5, 15 VDD, 16 GND, 17 PA0/U0RX, 18 PA1/U0TX, 19 PA2/SSICLK, 20 PA3/SSIFSS, 21 PA4/SSIRX, 22 PA5/SSITX, 23 VDD, 24 GND, 25 PD0/PWM0, 26 PD1/PWM1, 27 PD2/U1RX, 28 PD3/U1TX, 29 PB0/PWM2, 30 PB1/PWM3, 31 GND, 32 VDD, 33 PB2, 34 PB3/FAULT, 35 PE0/PWM4, 36 PE1/PWM5, 37 PC3/TDO/SWO, 38 PC2/TDI, 39 PC1/TMS/SWDIO, 40 PC0/TCK/SWCLK, 41 PB7/TRSTN, 42 PB6/C0+, 43 PB5/C0O, 44 PB4/C0-, 45 PD4/CCP0, 46 PD5/CCP2, 47 ADC5, 48 ADC4

## LM3S618-IQN
designator ?
Stellaris ARM Cortex-M3 Microcontroller; Manufacturer #1: Luminary Micro; LMI Class: Sandstorm; Designator: U; Part Number: LM3S618
footprint QFP50P900X900X160-48N
pins: 1 ADC0, 2 ADC1, 3 ADC2, 4 ADC3, 5 RSTN, 6 LDO, 7 VDD, 8 GND, 9 OSC0, 10 OSC1, 11 PC7/CCP4, 12 PC6/PHB, 13 PC5/CCP1, 14 PC4/PHA, 15 VDD, 16 GND, 17 PA0/U0RX, 18 PA1/U0TX, 19 PA2/SSICLK, 20 PA3/SSIFSS, 21 PA4/SSIRX, 22 PA5/SSITX, 23 VDD, 24 GND, 25 PD0/PWM0, 26 PD1/PWM1, 27 PD2/U1RX, 28 PD3/U1TX, 29 PB0/PWM2, 30 PB1/PWM3, 31 GND, 32 VDD, 33 PB2/IDX, 34 PB3/FAULT, 35 PE0/PWM4, 36 PE1/PWM5, 37 PC3/TDO/SWO, 38 PC2/TDI, 39 PC1/TMS/SWDIO, 40 PC0/TCK/SWCLK, 41 PB7/TRSTN, 42 PB6/C0+, 43 PB5/C0O, 44 PB4/C0-, 45 PD4/CCP0, 46 PD5/CCP2, 47 ADC5, 48 ADC4

## LM3S628-IQN
designator ?
Stellaris ARM Cortex-M3 Microcontroller; Manufacturer #1: Luminary Micro; LMI Class: Sandstorm; Designator: U; Part Number: LM3S628
footprint QFP50P900X900X160-48N
pins: 1 ADC0, 2 ADC1, 3 ADC2, 4 ADC3, 5 RSTN, 6 LDO, 7 VDD, 8 GND, 9 OSC0, 10 OSC1, 11 PC7, 12 PC6/CCP3, 13 PC5/CCP1, 14 PC4, 15 VDD, 16 GND, 17 PA0/U0RX, 18 PA1/U0TX, 19 PA2/SSICLK, 20 PA3/SSIFSS, 21 PA4/SSIRX, 22 PA5/SSITX, 23 VDD, 24 GND, 25 PD0, 26 PD1, 27 PD2/U1RX, 28 PD3/U1TX, 29 PB0/CCP0, 30 PB1/CCP2, 31 GND, 32 VDD, 33 PB2/I2CSCL, 34 PB3/I2CSDA, 35 PE0, 36 PE1, 37 PC3/TDO/SWO, 38 PC2/TDI, 39 PC1/TMS/SWDIO, 40 PC0/TCK/SWCLK, 41 PB7/TRSTN, 42 PB6, 43 PB5, 44 PB4, 45 ADC7, 46 ADC6, 47 ADC5, 48 ADC4

## LM3S800-IQN
designator ?
Stellaris ARM Cortex-M3 Microcontroller; Manufacturer #1: Luminary Micro; LMI Class: Sandstorm; Designator: U; Part Number: LM3S800
footprint QFP50P900X900X160-48N
pins: 1 PE5/CCP5, 2 PE4/CCP3, 3 PE3/CCP1, 4 PE2/CCP4, 5 RSTN, 6 LDO, 7 VDD, 8 GND, 9 OSC0, 10 OSC1, 11 PC7/C2-, 12 PC6/C2+/C2O, 13 PC5/C1+/C1O, 14 PC4, 15 VDD, 16 GND, 17 PA0/U0RX, 18 PA1/U0TX, 19 PA2/SSICLK, 20 PA3/SSIFSS, 21 PA4/SSIRX, 22 PA5/SSITX, 23 VDD, 24 GND, 25 PD0, 26 PD1, 27 PD2/U1RX, 28 PD3/U1TX, 29 PB0, 30 PB1, 31 GND, 32 VDD, 33 PB2/I2CSCL, 34 PB3/I2CSDA, 35 PE0, 36 PE1, 37 PC3/TDO/SWO, 38 PC2/TDI, 39 PC1/TMS/SWDIO, 40 PC0/TCK/SWCLK, 41 PB7/TRSTN, 42 PB6/C0+, 43 PB5/C1-, 44 PB4/C0-, 45 PD4/CCP0, 46 PD5/CCP2, 47 PD6, 48 PD7/C0O

## LM3S801-IQN
designator ?
Stellaris ARM Cortex-M3 Microcontroller; Manufacturer #1: Luminary Micro; LMI Class: Sandstorm; Designator: U; Part Number: LM3S801
footprint QFP50P900X900X160-48N
pins: 1 PE5/CCP5, 2 PE4/CCP3, 3 PE3/CCP1, 4 PE2/CCP4, 5 RSTN, 6 LDO, 7 VDD, 8 GND, 9 OSC0, 10 OSC1, 11 PC7/C2-, 12 PC6/C2+/PHB, 13 PC5/C1+/C0O, 14 PC4/PHA, 15 VDD, 16 GND, 17 PA0/U0RX, 18 PA1/U0TX, 19 PA2/SSICLK, 20 PA3/SSIFSS, 21 PA4/SSIRX, 22 PA5/SSITX, 23 VDD, 24 GND, 25 PD0/PWM0, 26 PD1/PWM1, 27 PD2/U1RX, 28 PD3/U1TX, 29 PB0/PWM2, 30 PB1/PWM3, 31 GND, 32 VDD, 33 PB2/I2CSCL, 34 PB3/I2CSDA, 35 PE0/PWM4, 36 PE1/PWM5, 37 PC3/TDO/SWO, 38 PC2/TDI, 39 PC1/TMS/SWDIO, 40 PC0/TCK/SWCLK, 41 PB7/TRSTN, 42 PB6/C0+, 43 PB5/C1-, 44 PB4/C0-, 45 PD4/CCP0, 46 PD5/CCP2, 47 PD6/FAULT, 48 PD7/IDX

## LM3S808-IQN
designator ?
Stellaris ARM Cortex-M3 Microcontroller; Manufacturer #1: Luminary Micro; LMI Class: Sandstorm; Designator: U; Part Number: LM3S808
footprint QFP50P900X900X160-48N
pins: 1 ADC0, 2 ADC1, 3 ADC2, 4 ADC3, 5 RSTN, 6 LDO, 7 VDD, 8 GND, 9 OSC0, 10 OSC1, 11 PC7/CCP4, 12 PC6/CCP3, 13 PC5/CCP1, 14 PC4, 15 VDD, 16 GND, 17 PA0/U0RX, 18 PA1/U0TX, 19 PA2/SSICLK, 20 PA3/SSIFSS, 21 PA4/SSIRX, 22 PA5/SSITX, 23 VDD, 24 GND, 25 PD0, 26 PD1, 27 PD2/U1RX, 28 PD3/U1TX, 29 PB0/CCP0, 30 PB1/CCP2, 31 GND, 32 VDD, 33 PB2/I2CSCL, 34 PB3/I2CSDA, 35 PE0, 36 PE1, 37 PC3/TDO/SWO, 38 PC2/TDI, 39 PC1/TMS/SWDIO, 40 PC0/TCK/SWCLK, 41 PB7/TRSTN, 42 PB6/C0+, 43 PB5/CCP5, 44 PB4/C0-, 45 ADC7, 46 ADC6, 47 ADC5, 48 ADC4

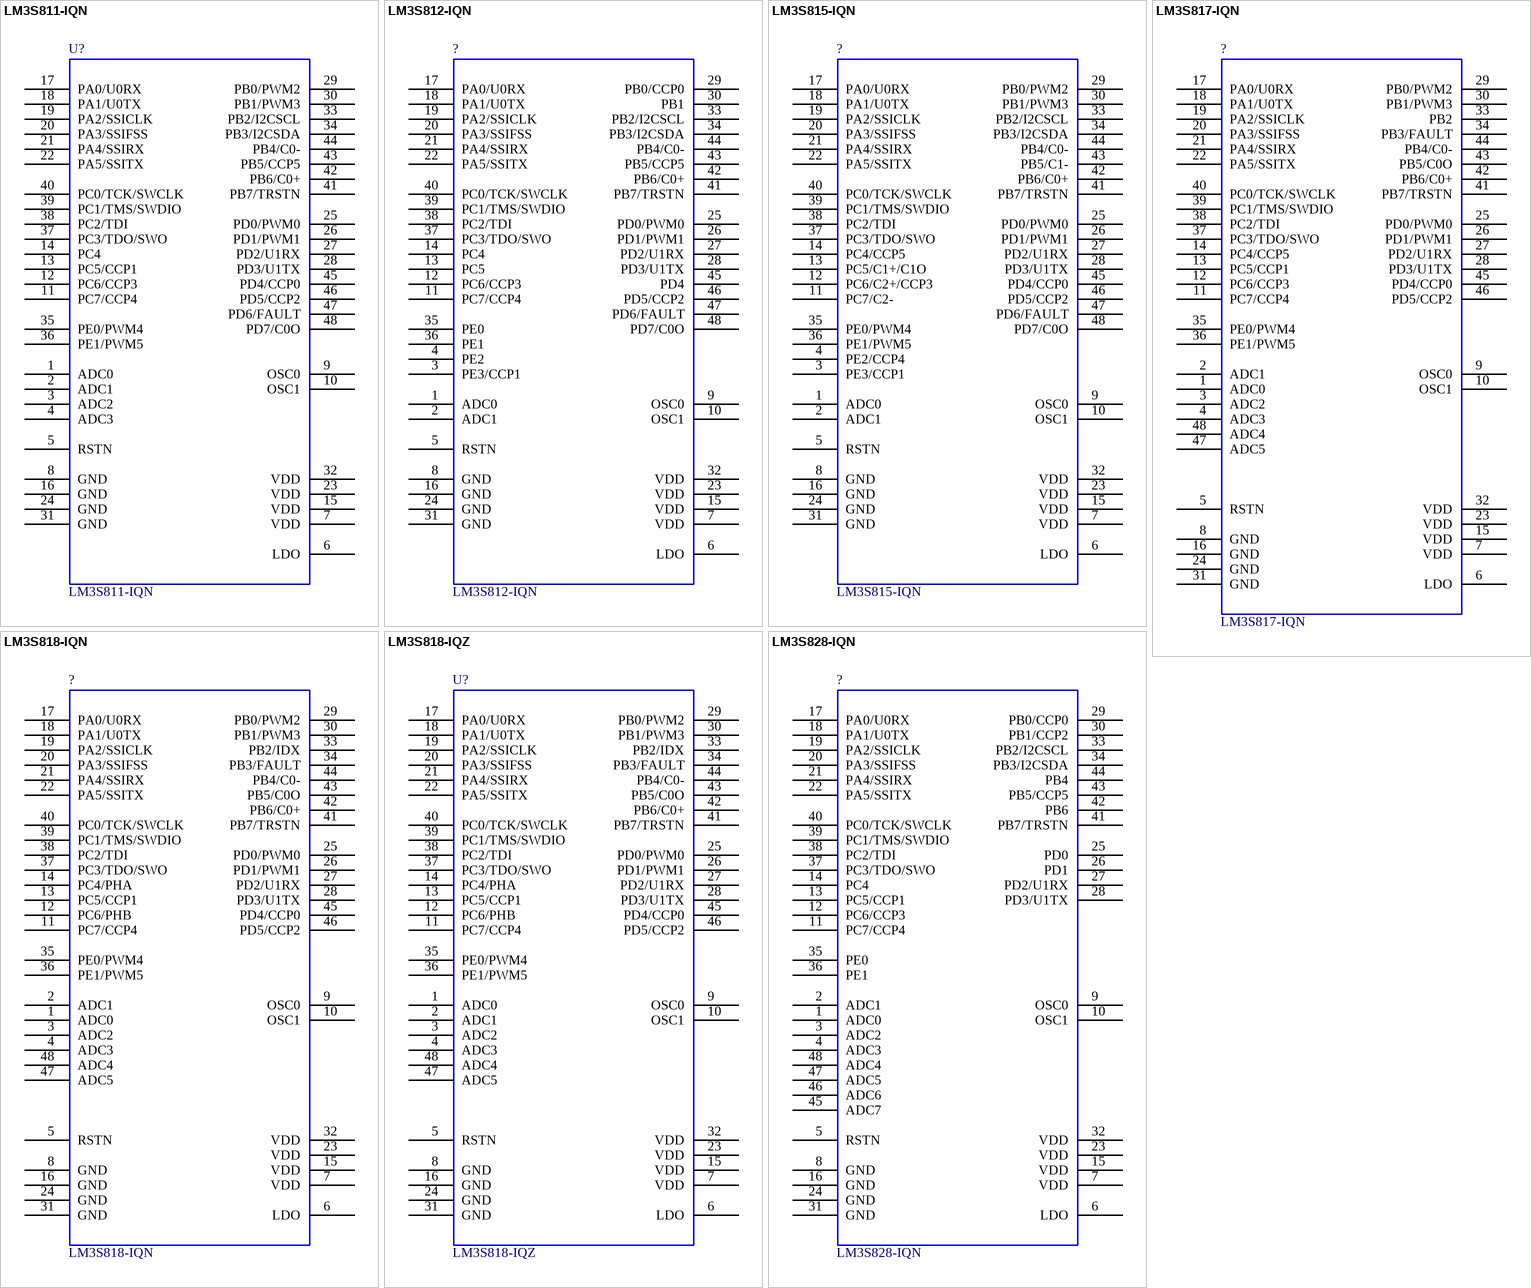
[diagram p18: symbols LM3S811-IQN to LM3S828-IQN]

## LM3S811-IQN
designator U?
Stellaris ARM Cortex-M3 Microcontroller; Manufacturer #1: Luminary Micro; LMI Class: Sandstorm; Designator: U; Part Number: LM3S811
footprint QFP50P900X900X160-48N
pins: 1 ADC0, 2 ADC1, 3 ADC2, 4 ADC3, 5 RSTN, 6 LDO, 7 VDD, 8 GND, 9 OSC0, 10 OSC1, 11 PC7/CCP4, 12 PC6/CCP3, 13 PC5/CCP1, 14 PC4, 15 VDD, 16 GND, 17 PA0/U0RX, 18 PA1/U0TX, 19 PA2/SSICLK, 20 PA3/SSIFSS, 21 PA4/SSIRX, 22 PA5/SSITX, 23 VDD, 24 GND, 25 PD0/PWM0, 26 PD1/PWM1, 27 PD2/U1RX, 28 PD3/U1TX, 29 PB0/PWM2, 30 PB1/PWM3, 31 GND, 32 VDD, 33 PB2/I2CSCL, 34 PB3/I2CSDA, 35 PE0/PWM4, 36 PE1/PWM5, 37 PC3/TDO/SWO, 38 PC2/TDI, 39 PC1/TMS/SWDIO, 40 PC0/TCK/SWCLK, 41 PB7/TRSTN, 42 PB6/C0+, 43 PB5/CCP5, 44 PB4/C0-, 45 PD4/CCP0, 46 PD5/CCP2, 47 PD6/FAULT, 48 PD7/C0O

## LM3S812-IQN
designator ?
Stellaris ARM Cortex-M3 Microcontroller; Manufacturer #1: Luminary Micro; LMI Class: Sandstorm; Designator: U; Part Number: LM3S812
footprint QFP50P900X900X160-48N
pins: 1 ADC0, 2 ADC1, 3 PE3/CCP1, 4 PE2, 5 RSTN, 6 LDO, 7 VDD, 8 GND, 9 OSC0, 10 OSC1, 11 PC7/CCP4, 12 PC6/CCP3, 13 PC5, 14 PC4, 15 VDD, 16 GND, 17 PA0/U0RX, 18 PA1/U0TX, 19 PA2/SSICLK, 20 PA3/SSIFSS, 21 PA4/SSIRX, 22 PA5/SSITX, 23 VDD, 24 GND, 25 PD0/PWM0, 26 PD1/PWM1, 27 PD2/U1RX, 28 PD3/U1TX, 29 PB0/CCP0, 30 PB1, 31 GND, 32 VDD, 33 PB2/I2CSCL, 34 PB3/I2CSDA, 35 PE0, 36 PE1, 37 PC3/TDO/SWO, 38 PC2/TDI, 39 PC1/TMS/SWDIO, 40 PC0/TCK/SWCLK, 41 PB7/TRSTN, 42 PB6/C0+, 43 PB5/CCP5, 44 PB4/C0-, 45 PD4, 46 PD5/CCP2, 47 PD6/FAULT, 48 PD7/C0O

## LM3S815-IQN
designator ?
Stellaris ARM Cortex-M3 Microcontroller; Manufacturer #1: Luminary Micro; LMI Class: Sandstorm; Designator: U; Part Number: LM3S815
footprint QFP50P900X900X160-48N
pins: 1 ADC0, 2 ADC1, 3 PE3/CCP1, 4 PE2/CCP4, 5 RSTN, 6 LDO, 7 VDD, 8 GND, 9 OSC0, 10 OSC1, 11 PC7/C2-, 12 PC6/C2+/CCP3, 13 PC5/C1+/C1O, 14 PC4/CCP5, 15 VDD, 16 GND, 17 PA0/U0RX, 18 PA1/U0TX, 19 PA2/SSICLK, 20 PA3/SSIFSS, 21 PA4/SSIRX, 22 PA5/SSITX, 23 VDD, 24 GND, 25 PD0/PWM0, 26 PD1/PWM1, 27 PD2/U1RX, 28 PD3/U1TX, 29 PB0/PWM2, 30 PB1/PWM3, 31 GND, 32 VDD, 33 PB2/I2CSCL, 34 PB3/I2CSDA, 35 PE0/PWM4, 36 PE1/PWM5, 37 PC3/TDO/SWO, 38 PC2/TDI, 39 PC1/TMS/SWDIO, 40 PC0/TCK/SWCLK, 41 PB7/TRSTN, 42 PB6/C0+, 43 PB5/C1-, 44 PB4/C0-, 45 PD4/CCP0, 46 PD5/CCP2, 47 PD6/FAULT, 48 PD7/C0O

## LM3S817-IQN
designator ?
Stellaris ARM Cortex-M3 Microcontroller; Manufacturer #1: Luminary Micro; LMI Class: Sandstorm; Designator: U; Part Number: LM3S817
footprint QFP50P900X900X160-48N
pins: 1 ADC0, 2 ADC1, 3 ADC2, 4 ADC3, 5 RSTN, 6 LDO, 7 VDD, 8 GND, 9 OSC0, 10 OSC1, 11 PC7/CCP4, 12 PC6/CCP3, 13 PC5/CCP1, 14 PC4/CCP5, 15 VDD, 16 GND, 17 PA0/U0RX, 18 PA1/U0TX, 19 PA2/SSICLK, 20 PA3/SSIFSS, 21 PA4/SSIRX, 22 PA5/SSITX, 23 VDD, 24 GND, 25 PD0/PWM0, 26 PD1/PWM1, 27 PD2/U1RX, 28 PD3/U1TX, 29 PB0/PWM2, 30 PB1/PWM3, 31 GND, 32 VDD, 33 PB2, 34 PB3/FAULT, 35 PE0/PWM4, 36 PE1/PWM5, 37 PC3/TDO/SWO, 38 PC2/TDI, 39 PC1/TMS/SWDIO, 40 PC0/TCK/SWCLK, 41 PB7/TRSTN, 42 PB6/C0+, 43 PB5/C0O, 44 PB4/C0-, 45 PD4/CCP0, 46 PD5/CCP2, 47 ADC5, 48 ADC4

## LM3S818-IQN
designator ?
Stellaris ARM Cortex-M3 Microcontroller; Manufacturer #1: Luminary Micro; LMI Class: Sandstorm; Designator: U; Part Number: LM3S818
footprint QFN48_7X7
pins: 1 ADC0, 2 ADC1, 3 ADC2, 4 ADC3, 5 RSTN, 6 LDO, 7 VDD, 8 GND, 9 OSC0, 10 OSC1, 11 PC7/CCP4, 12 PC6/PHB, 13 PC5/CCP1, 14 PC4/PHA, 15 VDD, 16 GND, 17 PA0/U0RX, 18 PA1/U0TX, 19 PA2/SSICLK, 20 PA3/SSIFSS, 21 PA4/SSIRX, 22 PA5/SSITX, 23 VDD, 24 GND, 25 PD0/PWM0, 26 PD1/PWM1, 27 PD2/U1RX, 28 PD3/U1TX, 29 PB0/PWM2, 30 PB1/PWM3, 31 GND, 32 VDD, 33 PB2/IDX, 34 PB3/FAULT, 35 PE0/PWM4, 36 PE1/PWM5, 37 PC3/TDO/SWO, 38 PC2/TDI, 39 PC1/TMS/SWDIO, 40 PC0/TCK/SWCLK, 41 PB7/TRSTN, 42 PB6/C0+, 43 PB5/C0O, 44 PB4/C0-, 45 PD4/CCP0, 46 PD5/CCP2, 47 ADC5, 48 ADC4

## LM3S818-IQZ
designator U?
Stellaris ARM Cortex-M3 Microcontroller; Manufacturer #1: Texas Instruments; LMI Class: Sandstorm; Designator: U; GNUM: G50-QFN48-0818-SAA; Part Number: LM3S818
footprint QFP50P900X900X160-48N
pins: 1 ADC0, 2 ADC1, 3 ADC2, 4 ADC3, 5 RSTN, 6 LDO, 7 VDD, 8 GND, 9 OSC0, 10 OSC1, 11 PC7/CCP4, 12 PC6/PHB, 13 PC5/CCP1, 14 PC4/PHA, 15 VDD, 16 GND, 17 PA0/U0RX, 18 PA1/U0TX, 19 PA2/SSICLK, 20 PA3/SSIFSS, 21 PA4/SSIRX, 22 PA5/SSITX, 23 VDD, 24 GND, 25 PD0/PWM0, 26 PD1/PWM1, 27 PD2/U1RX, 28 PD3/U1TX, 29 PB0/PWM2, 30 PB1/PWM3, 31 GND, 32 VDD, 33 PB2/IDX, 34 PB3/FAULT, 35 PE0/PWM4, 36 PE1/PWM5, 37 PC3/TDO/SWO, 38 PC2/TDI, 39 PC1/TMS/SWDIO, 40 PC0/TCK/SWCLK, 41 PB7/TRSTN, 42 PB6/C0+, 43 PB5/C0O, 44 PB4/C0-, 45 PD4/CCP0, 46 PD5/CCP2, 47 ADC5, 48 ADC4

## LM3S828-IQN
designator ?
Stellaris ARM Cortex-M3 Microcontroller; Manufacturer #1: Luminary Micro; LMI Class: Sandstorm; Designator: U; Part Number: LM3S828
footprint QFP50P900X900X160-48N
pins: 1 ADC0, 2 ADC1, 3 ADC2, 4 ADC3, 5 RSTN, 6 LDO, 7 VDD, 8 GND, 9 OSC0, 10 OSC1, 11 PC7/CCP4, 12 PC6/CCP3, 13 PC5/CCP1, 14 PC4, 15 VDD, 16 GND, 17 PA0/U0RX, 18 PA1/U0TX, 19 PA2/SSICLK, 20 PA3/SSIFSS, 21 PA4/SSIRX, 22 PA5/SSITX, 23 VDD, 24 GND, 25 PD0, 26 PD1, 27 PD2/U1RX, 28 PD3/U1TX, 29 PB0/CCP0, 30 PB1/CCP2, 31 GND, 32 VDD, 33 PB2/I2CSCL, 34 PB3/I2CSDA, 35 PE0, 36 PE1, 37 PC3/TDO/SWO, 38 PC2/TDI, 39 PC1/TMS/SWDIO, 40 PC0/TCK/SWCLK, 41 PB7/TRSTN, 42 PB6, 43 PB5/CCP5, 44 PB4, 45 ADC7, 46 ADC6, 47 ADC5, 48 ADC4

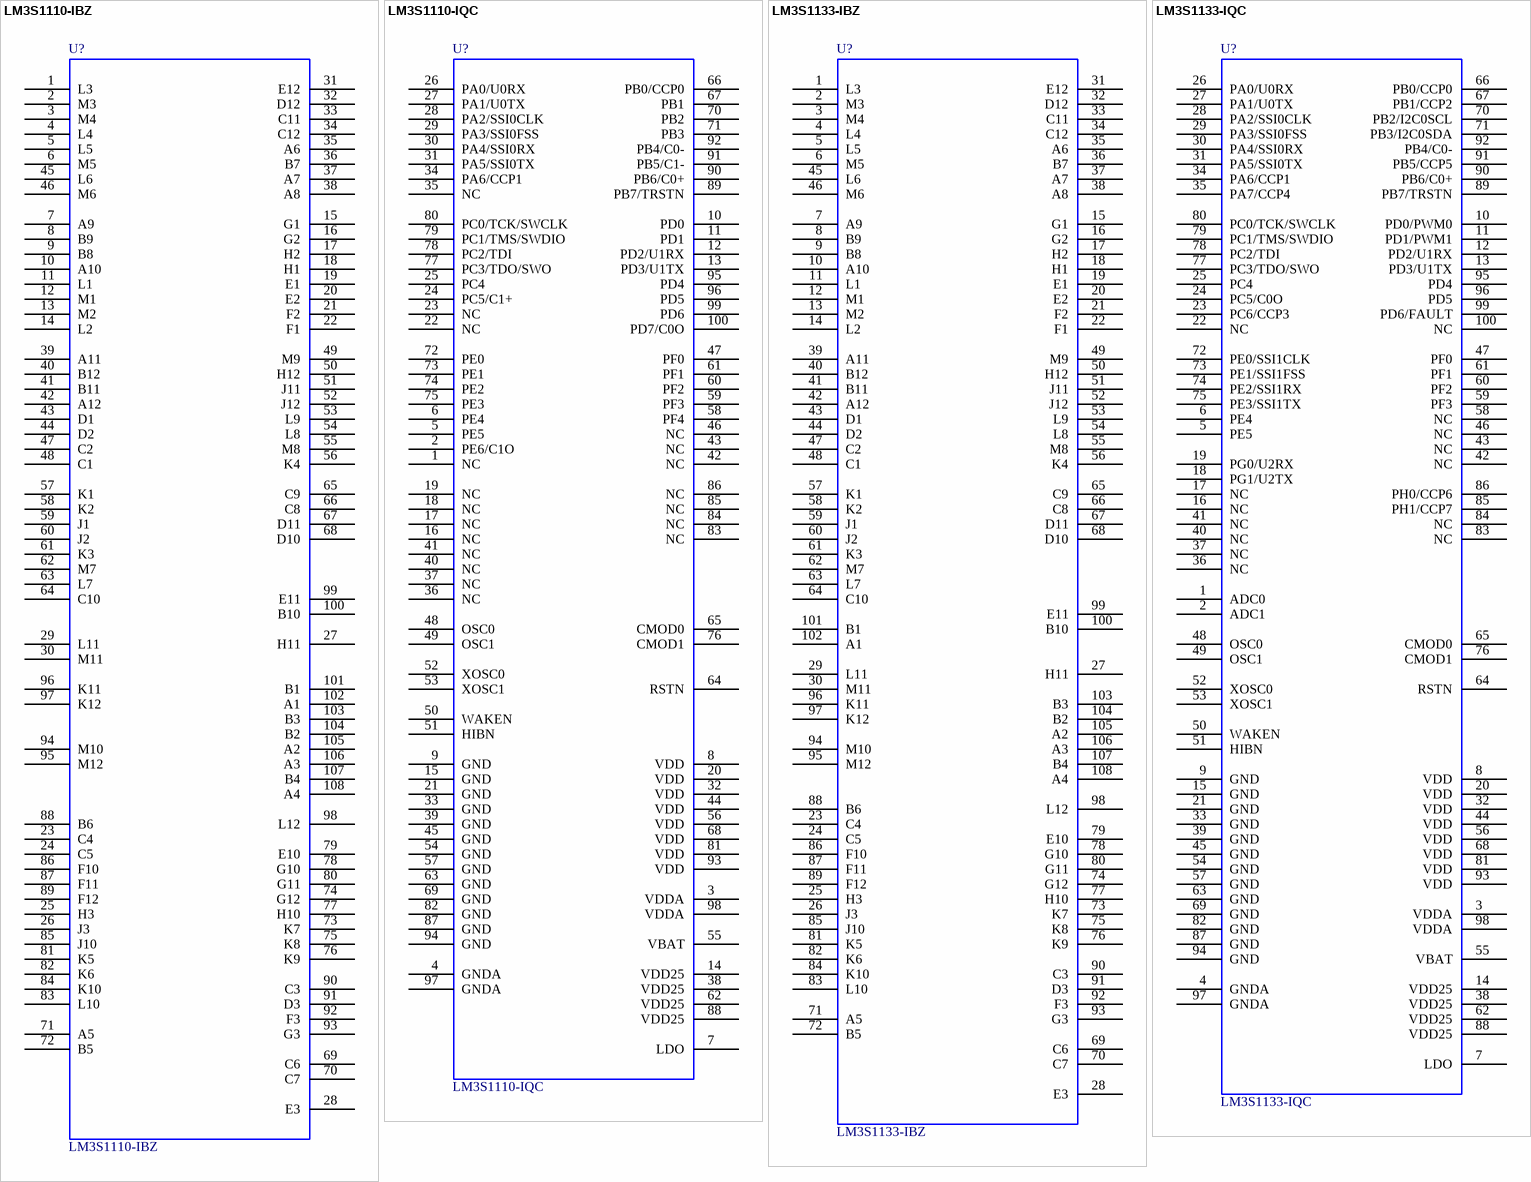
[diagram p19: symbols LM3S1110-IBZ to LM3S1133-IQC]

## LM3S1110-IBZ
designator U?
Stellaris ARM Cortex-M3 Microcontroller; Manufacturer #1: Texas Instruments; Designator: U; Stellaris Class: Fury; Part Number: LM3S1110-IBZ
footprint BGA108C80P12X12_1000X1000X150
pins: 1 L3, 2 M3, 3 M4, 4 L4, 5 L5, 6 M5, 7 A9, 8 B9, 9 B8, 10 A10, 11 L1, 12 M1, 13 M2, 14 L2, 15 G1, 16 G2, 17 H2, 18 H1, 19 E1, 20 E2, 21 F2, 22 F1, 23 C4, 24 C5, 25 H3, 26 J3, 27 H11, 28 E3, 29 L11, 30 M11, 31 E12, 32 D12, 33 C11, 34 C12, 35 A6, 36 B7, 37 A7, 38 A8, 39 A11, 40 B12, 41 B11, 42 A12, 43 D1, 44 D2, 45 L6, 46 M6, 47 C2, 48 C1, 49 M9, 50 H12, 51 J11, 52 J12, 53 L9, 54 L8, 55 M8, 56 K4, 57 K1, 58 K2, 59 J1, 60 J2, 61 K3, 62 M7, 63 L7, 64 C10, 65 C9, 66 C8, 67 D11, 68 D10, 69 C6, 70 C7, 71 A5, 72 B5, 73 K7, 74 G12, 75 K8, 76 K9, 77 H10, 78 G10, 79 E10, 80 G11, 81 K5, 82 K6, 83 L10, 84 K10, 85 J10, 86 F10, 87 F11, 88 B6, 89 F12, 90 C3, 91 D3, 92 F3, 93 G3, 94 M10, 95 M12, 96 K11, 97 K12, 98 L12, 99 E11, 100 B10, 101 B1, 102 A1, 103 B3, 104 B2, 105 A2, 106 A3, 107 B4, 108 A4

## LM3S1110-IQC
designator U?
Stellaris ARM Cortex-M3 Microcontroller; Manufacturer #1: Texas Instruments; Designator: U; Stellaris Class: Fury; Part Number: LM3S1110-IQC
footprint QFP50P1600X1600X160-100N
pins: 1 NC, 2 PE6/C1O, 3 VDDA, 4 GNDA, 5 PE5, 6 PE4, 7 LDO, 8 VDD, 9 GND, 10 PD0, 11 PD1, 12 PD2/U1RX, 13 PD3/U1TX, 14 VDD25, 15 GND, 16 NC, 17 NC, 18 NC, 19 NC, 20 VDD, 21 GND, 22 NC, 23 NC, 24 PC5/C1+, 25 PC4, 26 PA0/U0RX, 27 PA1/U0TX, 28 PA2/SSI0CLK, 29 PA3/SSI0FSS, 30 PA4/SSI0RX, 31 PA5/SSI0TX, 32 VDD, 33 GND, 34 PA6/CCP1, 35 NC, 36 NC, 37 NC, 38 VDD25, 39 GND, 40 NC, 41 NC, 42 NC, 43 NC, 44 VDD, 45 GND, 46 NC, 47 PF0, 48 OSC0, 49 OSC1, 50 WAKEN, 51 HIBN, 52 XOSC0, 53 XOSC1, 54 GND, 55 VBAT, 56 VDD, 57 GND, 58 PF4, 59 PF3, 60 PF2, 61 PF1, 62 VDD25, 63 GND, 64 RSTN, 65 CMOD0, 66 PB0/CCP0, 67 PB1, 68 VDD, 69 GND, 70 PB2, 71 PB3, 72 PE0, 73 PE1, 74 PE2, 75 PE3, 76 CMOD1, 77 PC3/TDO/SWO, 78 PC2/TDI, 79 PC1/TMS/SWDIO, 80 PC0/TCK/SWCLK, 81 VDD, 82 GND, 83 NC, 84 NC, 85 NC, 86 NC, 87 GND, 88 VDD25, 89 PB7/TRSTN, 90 PB6/C0+, 91 PB5/C1-, 92 PB4/C0-, 93 VDD, 94 GND, 95 PD4, 96 PD5, 97 GNDA, 98 VDDA, 99 PD6, 100 PD7/C0O

## LM3S1133-IBZ
designator U?
Stellaris ARM Cortex-M3 Microcontroller; Manufacturer #1: Texas Instruments; Designator: U; Stellaris Class: Fury; Part Number: LM3S1133-IBZ
footprint BGA108C80P12X12_1000X1000X150
pins: 1 L3, 2 M3, 3 M4, 4 L4, 5 L5, 6 M5, 7 A9, 8 B9, 9 B8, 10 A10, 11 L1, 12 M1, 13 M2, 14 L2, 15 G1, 16 G2, 17 H2, 18 H1, 19 E1, 20 E2, 21 F2, 22 F1, 23 C4, 24 C5, 25 H3, 26 J3, 27 H11, 28 E3, 29 L11, 30 M11, 31 E12, 32 D12, 33 C11, 34 C12, 35 A6, 36 B7, 37 A7, 38 A8, 39 A11, 40 B12, 41 B11, 42 A12, 43 D1, 44 D2, 45 L6, 46 M6, 47 C2, 48 C1, 49 M9, 50 H12, 51 J11, 52 J12, 53 L9, 54 L8, 55 M8, 56 K4, 57 K1, 58 K2, 59 J1, 60 J2, 61 K3, 62 M7, 63 L7, 64 C10, 65 C9, 66 C8, 67 D11, 68 D10, 69 C6, 70 C7, 71 A5, 72 B5, 73 K7, 74 G12, 75 K8, 76 K9, 77 H10, 78 G10, 79 E10, 80 G11, 81 K5, 82 K6, 83 L10, 84 K10, 85 J10, 86 F10, 87 F11, 88 B6, 89 F12, 90 C3, 91 D3, 92 F3, 93 G3, 94 M10, 95 M12, 96 K11, 97 K12, 98 L12, 99 E11, 100 B10, 101 B1, 102 A1, 103 B3, 104 B2, 105 A2, 106 A3, 107 B4, 108 A4

## LM3S1133-IQC
designator U?
Stellaris ARM Cortex-M3 Microcontroller; Manufacturer #1: Texas Instruments; Designator: U; Stellaris Class: Fury; Part Number: LM3S1133-IQC
footprint QFP50P1600X1600X160-100N
pins: 1 ADC0, 2 ADC1, 3 VDDA, 4 GNDA, 5 PE5, 6 PE4, 7 LDO, 8 VDD, 9 GND, 10 PD0/PWM0, 11 PD1/PWM1, 12 PD2/U1RX, 13 PD3/U1TX, 14 VDD25, 15 GND, 16 NC, 17 NC, 18 PG1/U2TX, 19 PG0/U2RX, 20 VDD, 21 GND, 22 NC, 23 PC6/CCP3, 24 PC5/C0O, 25 PC4, 26 PA0/U0RX, 27 PA1/U0TX, 28 PA2/SSI0CLK, 29 PA3/SSI0FSS, 30 PA4/SSI0RX, 31 PA5/SSI0TX, 32 VDD, 33 GND, 34 PA6/CCP1, 35 PA7/CCP4, 36 NC, 37 NC, 38 VDD25, 39 GND, 40 NC, 41 NC, 42 NC, 43 NC, 44 VDD, 45 GND, 46 NC, 47 PF0, 48 OSC0, 49 OSC1, 50 WAKEN, 51 HIBN, 52 XOSC0, 53 XOSC1, 54 GND, 55 VBAT, 56 VDD, 57 GND, 58 NC, 59 PF3, 60 PF2, 61 PF1, 62 VDD25, 63 GND, 64 RSTN, 65 CMOD0, 66 PB0/CCP0, 67 PB1/CCP2, 68 VDD, 69 GND, 70 PB2/I2C0SCL, 71 PB3/I2C0SDA, 72 PE0/SSI1CLK, 73 PE1/SSI1FSS, 74 PE2/SSI1RX, 75 PE3/SSI1TX, 76 CMOD1, 77 PC3/TDO/SWO, 78 PC2/TDI, 79 PC1/TMS/SWDIO, 80 PC0/TCK/SWCLK, 81 VDD, 82 GND, 83 NC, 84 NC, 85 PH1/CCP7, 86 PH0/CCP6, 87 GND, 88 VDD25, 89 PB7/TRSTN, 90 PB6/C0+, 91 PB5/CCP5, 92 PB4/C0-, 93 VDD, 94 GND, 95 PD4, 96 PD5, 97 GNDA, 98 VDDA, 99 PD6/FAULT, 100 NC

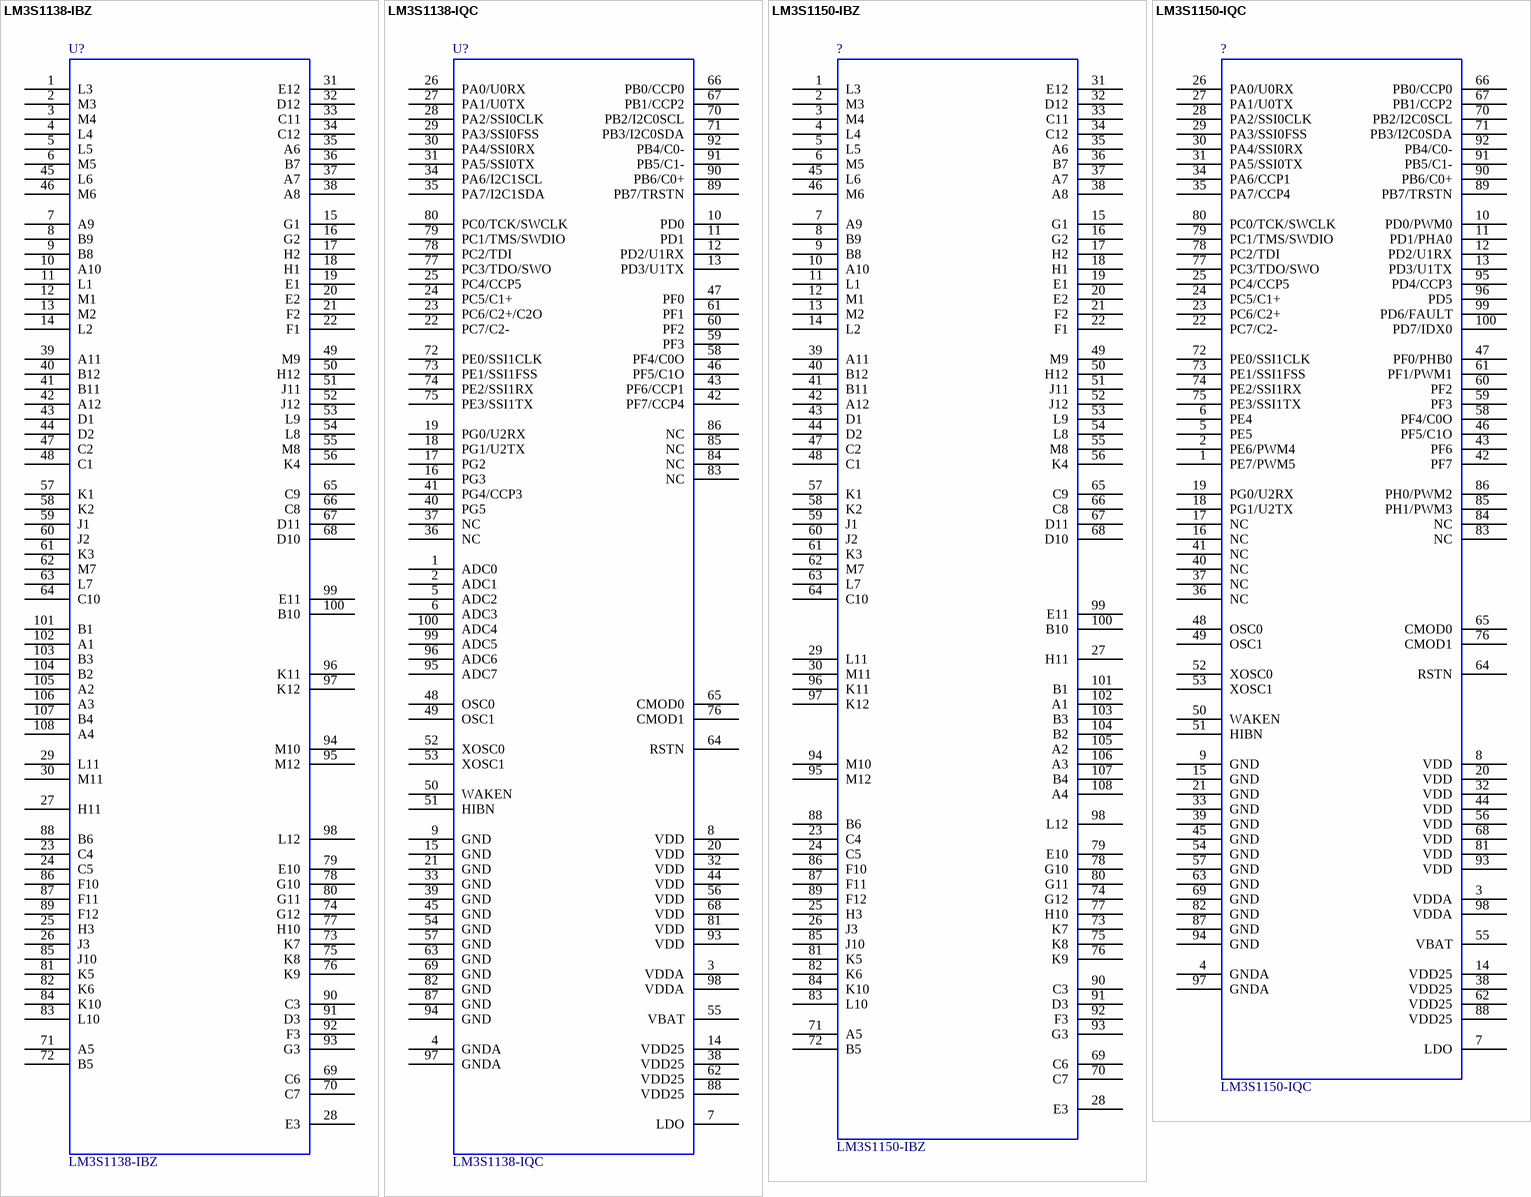
[diagram p20: symbols LM3S1138-IBZ to LM3S1150-IQC]

## LM3S1138-IBZ
designator U?
Stellaris ARM Cortex-M3 Microcontroller; Manufacturer #1: Texas Instruments; Designator: U; Stellaris Class: Fury; Part Number: LM3S1138-IBZ
footprint BGA108C80P12X12_1000X1000X150
pins: 1 L3, 2 M3, 3 M4, 4 L4, 5 L5, 6 M5, 7 A9, 8 B9, 9 B8, 10 A10, 11 L1, 12 M1, 13 M2, 14 L2, 15 G1, 16 G2, 17 H2, 18 H1, 19 E1, 20 E2, 21 F2, 22 F1, 23 C4, 24 C5, 25 H3, 26 J3, 27 H11, 28 E3, 29 L11, 30 M11, 31 E12, 32 D12, 33 C11, 34 C12, 35 A6, 36 B7, 37 A7, 38 A8, 39 A11, 40 B12, 41 B11, 42 A12, 43 D1, 44 D2, 45 L6, 46 M6, 47 C2, 48 C1, 49 M9, 50 H12, 51 J11, 52 J12, 53 L9, 54 L8, 55 M8, 56 K4, 57 K1, 58 K2, 59 J1, 60 J2, 61 K3, 62 M7, 63 L7, 64 C10, 65 C9, 66 C8, 67 D11, 68 D10, 69 C6, 70 C7, 71 A5, 72 B5, 73 K7, 74 G12, 75 K8, 76 K9, 77 H10, 78 G10, 79 E10, 80 G11, 81 K5, 82 K6, 83 L10, 84 K10, 85 J10, 86 F10, 87 F11, 88 B6, 89 F12, 90 C3, 91 D3, 92 F3, 93 G3, 94 M10, 95 M12, 96 K11, 97 K12, 98 L12, 99 E11, 100 B10, 101 B1, 102 A1, 103 B3, 104 B2, 105 A2, 106 A3, 107 B4, 108 A4

## LM3S1138-IQC
designator U?
Stellaris ARM Cortex-M3 Microcontroller; Manufacturer #1: Texas Instruments; Designator: U; Stellaris Class: Fury; Part Number: LM3S1138-IQC
footprint QFP50P1600X1600X160-100N
pins: 1 ADC0, 2 ADC1, 3 VDDA, 4 GNDA, 5 ADC2, 6 ADC3, 7 LDO, 8 VDD, 9 GND, 10 PD0, 11 PD1, 12 PD2/U1RX, 13 PD3/U1TX, 14 VDD25, 15 GND, 16 PG3, 17 PG2, 18 PG1/U2TX, 19 PG0/U2RX, 20 VDD, 21 GND, 22 PC7/C2-, 23 PC6/C2+/C2O, 24 PC5/C1+, 25 PC4/CCP5, 26 PA0/U0RX, 27 PA1/U0TX, 28 PA2/SSI0CLK, 29 PA3/SSI0FSS, 30 PA4/SSI0RX, 31 PA5/SSI0TX, 32 VDD, 33 GND, 34 PA6/I2C1SCL, 35 PA7/I2C1SDA, 36 NC, 37 NC, 38 VDD25, 39 GND, 40 PG5, 41 PG4/CCP3, 42 PF7/CCP4, 43 PF6/CCP1, 44 VDD, 45 GND, 46 PF5/C1O, 47 PF0, 48 OSC0, 49 OSC1, 50 WAKEN, 51 HIBN, 52 XOSC0, 53 XOSC1, 54 GND, 55 VBAT, 56 VDD, 57 GND, 58 PF4/C0O, 59 PF3, 60 PF2, 61 PF1, 62 VDD25, 63 GND, 64 RSTN, 65 CMOD0, 66 PB0/CCP0, 67 PB1/CCP2, 68 VDD, 69 GND, 70 PB2/I2C0SCL, 71 PB3/I2C0SDA, 72 PE0/SSI1CLK, 73 PE1/SSI1FSS, 74 PE2/SSI1RX, 75 PE3/SSI1TX, 76 CMOD1, 77 PC3/TDO/SWO, 78 PC2/TDI, 79 PC1/TMS/SWDIO, 80 PC0/TCK/SWCLK, 81 VDD, 82 GND, 83 NC, 84 NC, 85 NC, 86 NC, 87 GND, 88 VDD25, 89 PB7/TRSTN, 90 PB6/C0+, 91 PB5/C1-, 92 PB4/C0-, 93 VDD, 94 GND, 95 ADC7, 96 ADC6, 97 GNDA, 98 VDDA, 99 ADC5, 100 ADC4

## LM3S1150-IBZ
designator ?
Stellaris ARM Cortex-M3 Microcontroller; Manufacturer #1: Luminary Micro; LMI Class: Fury; Designator: U; Part Number: LM3S1150-IBZ
footprint BGA108C80P12X12_1000X1000X150
pins: 1 L3, 2 M3, 3 M4, 4 L4, 5 L5, 6 M5, 7 A9, 8 B9, 9 B8, 10 A10, 11 L1, 12 M1, 13 M2, 14 L2, 15 G1, 16 G2, 17 H2, 18 H1, 19 E1, 20 E2, 21 F2, 22 F1, 23 C4, 24 C5, 25 H3, 26 J3, 27 H11, 28 E3, 29 L11, 30 M11, 31 E12, 32 D12, 33 C11, 34 C12, 35 A6, 36 B7, 37 A7, 38 A8, 39 A11, 40 B12, 41 B11, 42 A12, 43 D1, 44 D2, 45 L6, 46 M6, 47 C2, 48 C1, 49 M9, 50 H12, 51 J11, 52 J12, 53 L9, 54 L8, 55 M8, 56 K4, 57 K1, 58 K2, 59 J1, 60 J2, 61 K3, 62 M7, 63 L7, 64 C10, 65 C9, 66 C8, 67 D11, 68 D10, 69 C6, 70 C7, 71 A5, 72 B5, 73 K7, 74 G12, 75 K8, 76 K9, 77 H10, 78 G10, 79 E10, 80 G11, 81 K5, 82 K6, 83 L10, 84 K10, 85 J10, 86 F10, 87 F11, 88 B6, 89 F12, 90 C3, 91 D3, 92 F3, 93 G3, 94 M10, 95 M12, 96 K11, 97 K12, 98 L12, 99 E11, 100 B10, 101 B1, 102 A1, 103 B3, 104 B2, 105 A2, 106 A3, 107 B4, 108 A4

## LM3S1150-IQC
designator ?
Stellaris ARM Cortex-M3 Microcontroller; Manufacturer #1: Luminary Micro; LMI Class: Fury; Designator: U; Part Number: LM3S1150-IQC
footprint QFP50P1600X1600X160-100N
pins: 1 PE7/PWM5, 2 PE6/PWM4, 3 VDDA, 4 GNDA, 5 PE5, 6 PE4, 7 LDO, 8 VDD, 9 GND, 10 PD0/PWM0, 11 PD1/PHA0, 12 PD2/U1RX, 13 PD3/U1TX, 14 VDD25, 15 GND, 16 NC, 17 NC, 18 PG1/U2TX, 19 PG0/U2RX, 20 VDD, 21 GND, 22 PC7/C2-, 23 PC6/C2+, 24 PC5/C1+, 25 PC4/CCP5, 26 PA0/U0RX, 27 PA1/U0TX, 28 PA2/SSI0CLK, 29 PA3/SSI0FSS, 30 PA4/SSI0RX, 31 PA5/SSI0TX, 32 VDD, 33 GND, 34 PA6/CCP1, 35 PA7/CCP4, 36 NC, 37 NC, 38 VDD25, 39 GND, 40 NC, 41 NC, 42 PF7, 43 PF6, 44 VDD, 45 GND, 46 PF5/C1O, 47 PF0/PHB0, 48 OSC0, 49 OSC1, 50 WAKEN, 51 HIBN, 52 XOSC0, 53 XOSC1, 54 GND, 55 VBAT, 56 VDD, 57 GND, 58 PF4/C0O, 59 PF3, 60 PF2, 61 PF1/PWM1, 62 VDD25, 63 GND, 64 RSTN, 65 CMOD0, 66 PB0/CCP0, 67 PB1/CCP2, 68 VDD, 69 GND, 70 PB2/I2C0SCL, 71 PB3/I2C0SDA, 72 PE0/SSI1CLK, 73 PE1/SSI1FSS, 74 PE2/SSI1RX, 75 PE3/SSI1TX, 76 CMOD1, 77 PC3/TDO/SWO, 78 PC2/TDI, 79 PC1/TMS/SWDIO, 80 PC0/TCK/SWCLK, 81 VDD, 82 GND, 83 NC, 84 NC, 85 PH1/PWM3, 86 PH0/PWM2, 87 GND, 88 VDD25, 89 PB7/TRSTN, 90 PB6/C0+, 91 PB5/C1-, 92 PB4/C0-, 93 VDD, 94 GND, 95 PD4/CCP3, 96 PD5, 97 GNDA, 98 VDDA, 99 PD6/FAULT, 100 PD7/IDX0

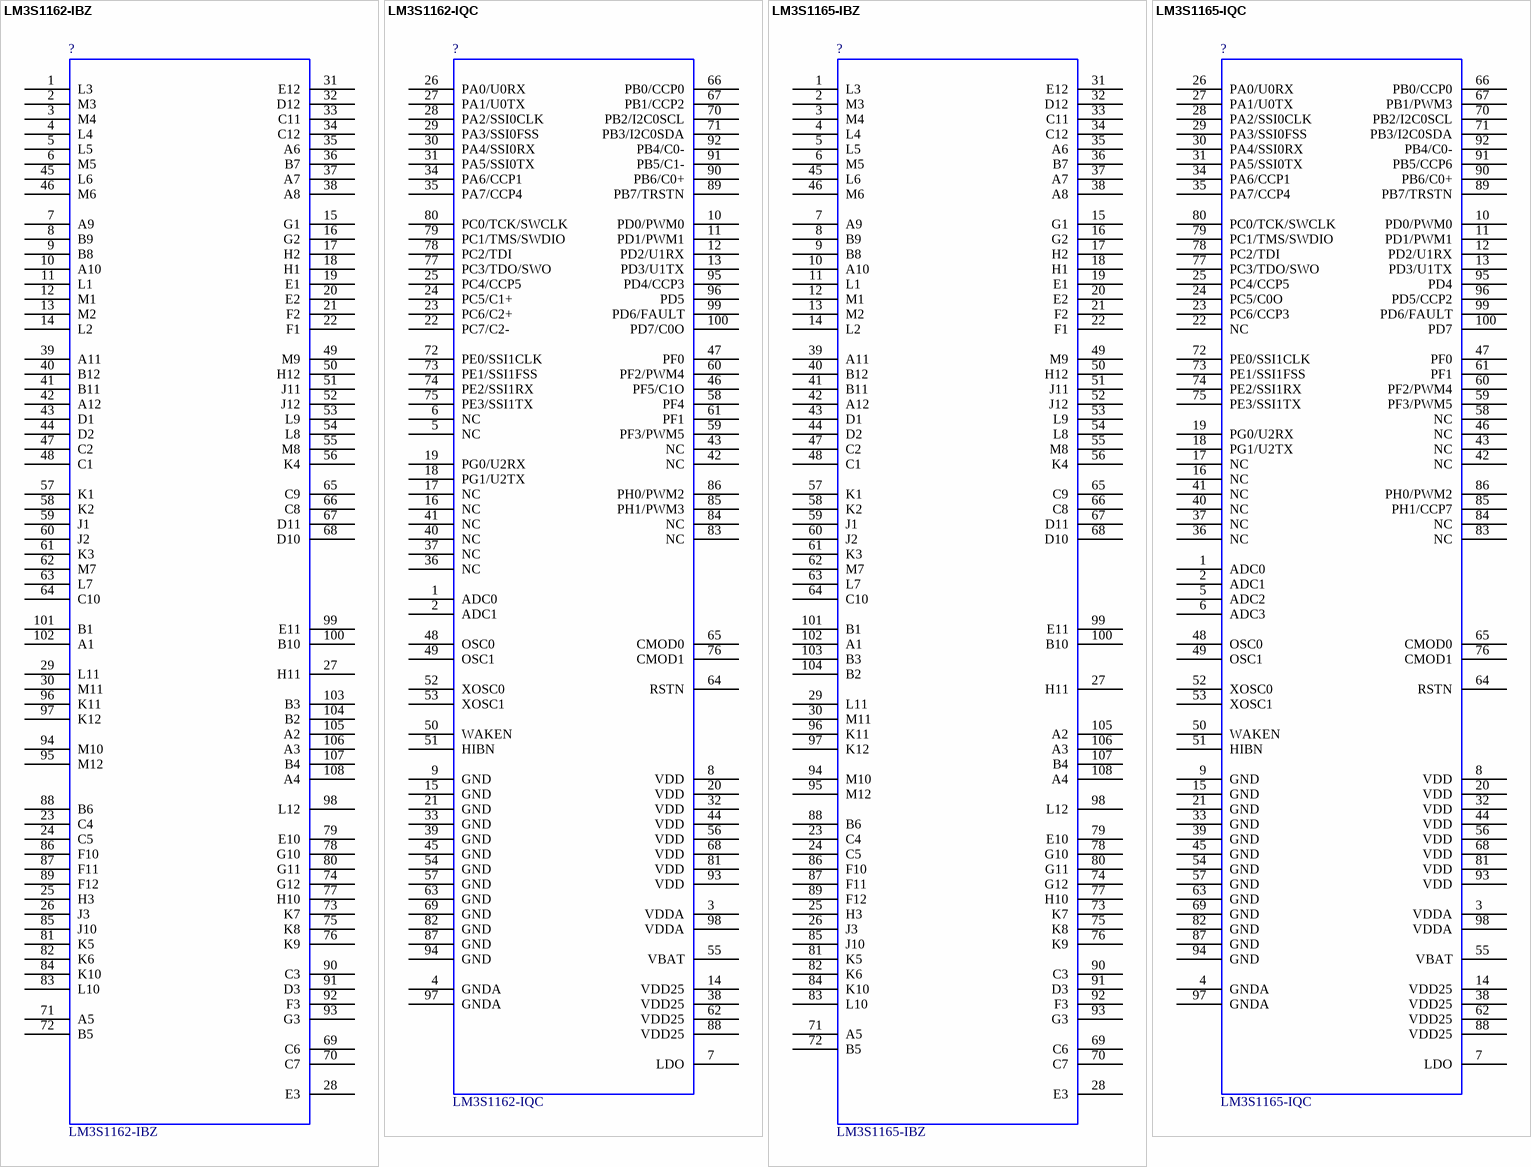
[diagram p21: symbols LM3S1162-IBZ to LM3S1165-IQC]

## LM3S1162-IBZ
designator ?
Stellaris ARM Cortex-M3 Microcontroller; Manufacturer #1: Luminary Micro; LMI Class: Fury; Designator: U; Part Number: LM3S1162-IBZ
footprint BGA108C80P12X12_1000X1000X150
pins: 1 L3, 2 M3, 3 M4, 4 L4, 5 L5, 6 M5, 7 A9, 8 B9, 9 B8, 10 A10, 11 L1, 12 M1, 13 M2, 14 L2, 15 G1, 16 G2, 17 H2, 18 H1, 19 E1, 20 E2, 21 F2, 22 F1, 23 C4, 24 C5, 25 H3, 26 J3, 27 H11, 28 E3, 29 L11, 30 M11, 31 E12, 32 D12, 33 C11, 34 C12, 35 A6, 36 B7, 37 A7, 38 A8, 39 A11, 40 B12, 41 B11, 42 A12, 43 D1, 44 D2, 45 L6, 46 M6, 47 C2, 48 C1, 49 M9, 50 H12, 51 J11, 52 J12, 53 L9, 54 L8, 55 M8, 56 K4, 57 K1, 58 K2, 59 J1, 60 J2, 61 K3, 62 M7, 63 L7, 64 C10, 65 C9, 66 C8, 67 D11, 68 D10, 69 C6, 70 C7, 71 A5, 72 B5, 73 K7, 74 G12, 75 K8, 76 K9, 77 H10, 78 G10, 79 E10, 80 G11, 81 K5, 82 K6, 83 L10, 84 K10, 85 J10, 86 F10, 87 F11, 88 B6, 89 F12, 90 C3, 91 D3, 92 F3, 93 G3, 94 M10, 95 M12, 96 K11, 97 K12, 98 L12, 99 E11, 100 B10, 101 B1, 102 A1, 103 B3, 104 B2, 105 A2, 106 A3, 107 B4, 108 A4

## LM3S1162-IQC
designator ?
Stellaris ARM Cortex-M3 Microcontroller; Manufacturer #1: Luminary Micro; LMI Class: Fury; Designator: U; Part Number: LM3S1162-IQC
footprint QFP50P1600X1600X160-100N
pins: 1 ADC0, 2 ADC1, 3 VDDA, 4 GNDA, 5 NC, 6 NC, 7 LDO, 8 VDD, 9 GND, 10 PD0/PWM0, 11 PD1/PWM1, 12 PD2/U1RX, 13 PD3/U1TX, 14 VDD25, 15 GND, 16 NC, 17 NC, 18 PG1/U2TX, 19 PG0/U2RX, 20 VDD, 21 GND, 22 PC7/C2-, 23 PC6/C2+, 24 PC5/C1+, 25 PC4/CCP5, 26 PA0/U0RX, 27 PA1/U0TX, 28 PA2/SSI0CLK, 29 PA3/SSI0FSS, 30 PA4/SSI0RX, 31 PA5/SSI0TX, 32 VDD, 33 GND, 34 PA6/CCP1, 35 PA7/CCP4, 36 NC, 37 NC, 38 VDD25, 39 GND, 40 NC, 41 NC, 42 NC, 43 NC, 44 VDD, 45 GND, 46 PF5/C1O, 47 PF0, 48 OSC0, 49 OSC1, 50 WAKEN, 51 HIBN, 52 XOSC0, 53 XOSC1, 54 GND, 55 VBAT, 56 VDD, 57 GND, 58 PF4, 59 PF3/PWM5, 60 PF2/PWM4, 61 PF1, 62 VDD25, 63 GND, 64 RSTN, 65 CMOD0, 66 PB0/CCP0, 67 PB1/CCP2, 68 VDD, 69 GND, 70 PB2/I2C0SCL, 71 PB3/I2C0SDA, 72 PE0/SSI1CLK, 73 PE1/SSI1FSS, 74 PE2/SSI1RX, 75 PE3/SSI1TX, 76 CMOD1, 77 PC3/TDO/SWO, 78 PC2/TDI, 79 PC1/TMS/SWDIO, 80 PC0/TCK/SWCLK, 81 VDD, 82 GND, 83 NC, 84 NC, 85 PH1/PWM3, 86 PH0/PWM2, 87 GND, 88 VDD25, 89 PB7/TRSTN, 90 PB6/C0+, 91 PB5/C1-, 92 PB4/C0-, 93 VDD, 94 GND, 95 PD4/CCP3, 96 PD5, 97 GNDA, 98 VDDA, 99 PD6/FAULT, 100 PD7/C0O

## LM3S1165-IBZ
designator ?
Stellaris ARM Cortex-M3 Microcontroller; Manufacturer #1: Luminary Micro; LMI Class: Fury; Designator: U; Part Number: LM3S1165-IBZ
footprint BGA108C80P12X12_1000X1000X150
pins: 1 L3, 2 M3, 3 M4, 4 L4, 5 L5, 6 M5, 7 A9, 8 B9, 9 B8, 10 A10, 11 L1, 12 M1, 13 M2, 14 L2, 15 G1, 16 G2, 17 H2, 18 H1, 19 E1, 20 E2, 21 F2, 22 F1, 23 C4, 24 C5, 25 H3, 26 J3, 27 H11, 28 E3, 29 L11, 30 M11, 31 E12, 32 D12, 33 C11, 34 C12, 35 A6, 36 B7, 37 A7, 38 A8, 39 A11, 40 B12, 41 B11, 42 A12, 43 D1, 44 D2, 45 L6, 46 M6, 47 C2, 48 C1, 49 M9, 50 H12, 51 J11, 52 J12, 53 L9, 54 L8, 55 M8, 56 K4, 57 K1, 58 K2, 59 J1, 60 J2, 61 K3, 62 M7, 63 L7, 64 C10, 65 C9, 66 C8, 67 D11, 68 D10, 69 C6, 70 C7, 71 A5, 72 B5, 73 K7, 74 G12, 75 K8, 76 K9, 77 H10, 78 G10, 79 E10, 80 G11, 81 K5, 82 K6, 83 L10, 84 K10, 85 J10, 86 F10, 87 F11, 88 B6, 89 F12, 90 C3, 91 D3, 92 F3, 93 G3, 94 M10, 95 M12, 96 K11, 97 K12, 98 L12, 99 E11, 100 B10, 101 B1, 102 A1, 103 B3, 104 B2, 105 A2, 106 A3, 107 B4, 108 A4

## LM3S1165-IQC
designator ?
Stellaris ARM Cortex-M3 Microcontroller; Manufacturer #1: Luminary Micro; LMI Class: Fury; Designator: U; Part Number: LM3S1165-IQC
footprint QFP50P1600X1600X160-100N
pins: 1 ADC0, 2 ADC1, 3 VDDA, 4 GNDA, 5 ADC2, 6 ADC3, 7 LDO, 8 VDD, 9 GND, 10 PD0/PWM0, 11 PD1/PWM1, 12 PD2/U1RX, 13 PD3/U1TX, 14 VDD25, 15 GND, 16 NC, 17 NC, 18 PG1/U2TX, 19 PG0/U2RX, 20 VDD, 21 GND, 22 NC, 23 PC6/CCP3, 24 PC5/C0O, 25 PC4/CCP5, 26 PA0/U0RX, 27 PA1/U0TX, 28 PA2/SSI0CLK, 29 PA3/SSI0FSS, 30 PA4/SSI0RX, 31 PA5/SSI0TX, 32 VDD, 33 GND, 34 PA6/CCP1, 35 PA7/CCP4, 36 NC, 37 NC, 38 VDD25, 39 GND, 40 NC, 41 NC, 42 NC, 43 NC, 44 VDD, 45 GND, 46 NC, 47 PF0, 48 OSC0, 49 OSC1, 50 WAKEN, 51 HIBN, 52 XOSC0, 53 XOSC1, 54 GND, 55 VBAT, 56 VDD, 57 GND, 58 NC, 59 PF3/PWM5, 60 PF2/PWM4, 61 PF1, 62 VDD25, 63 GND, 64 RSTN, 65 CMOD0, 66 PB0/CCP0, 67 PB1/PWM3, 68 VDD, 69 GND, 70 PB2/I2C0SCL, 71 PB3/I2C0SDA, 72 PE0/SSI1CLK, 73 PE1/SSI1FSS, 74 PE2/SSI1RX, 75 PE3/SSI1TX, 76 CMOD1, 77 PC3/TDO/SWO, 78 PC2/TDI, 79 PC1/TMS/SWDIO, 80 PC0/TCK/SWCLK, 81 VDD, 82 GND, 83 NC, 84 NC, 85 PH1/CCP7, 86 PH0/PWM2, 87 GND, 88 VDD25, 89 PB7/TRSTN, 90 PB6/C0+, 91 PB5/CCP6, 92 PB4/C0-, 93 VDD, 94 GND, 95 PD4, 96 PD5/CCP2, 97 GNDA, 98 VDDA, 99 PD6/FAULT, 100 PD7

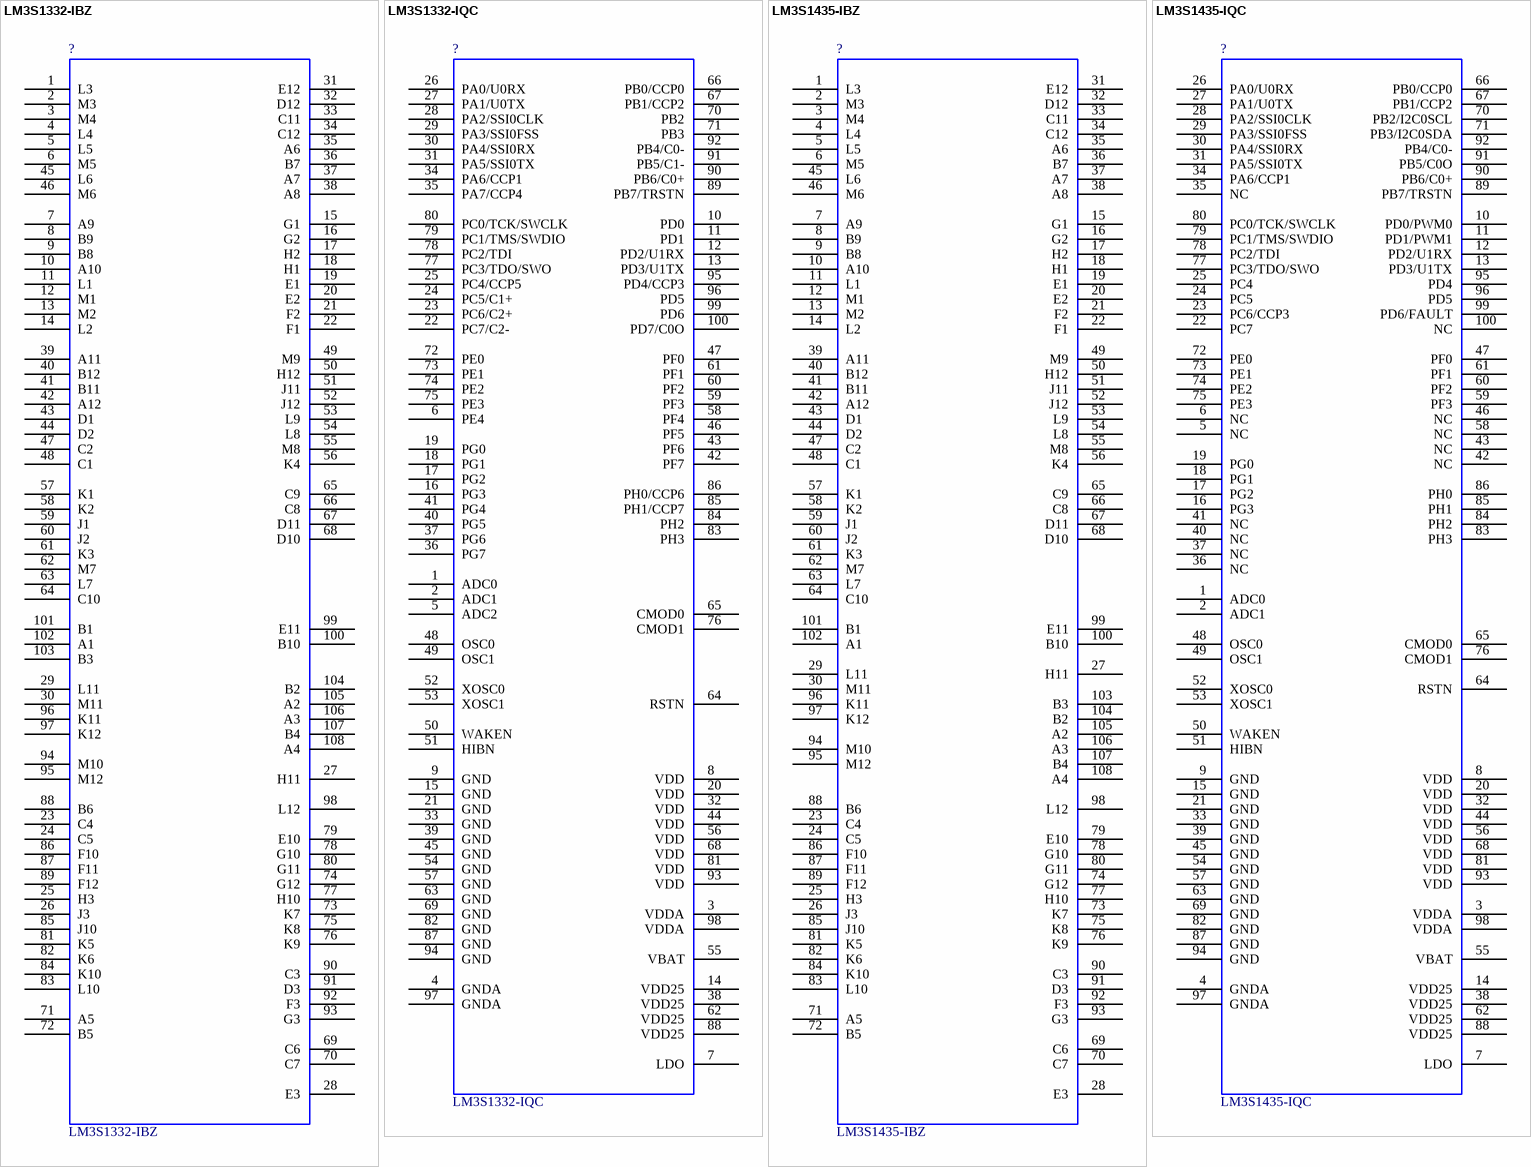
[diagram p22: symbols LM3S1332-IBZ to LM3S1435-IQC]

## LM3S1332-IBZ
designator ?
Stellaris ARM Cortex-M3 Microcontroller; Manufacturer #1: Luminary Micro; LMI Class: Fury; Designator: U; Part Number: LM3S1332-IBZ
footprint BGA108C80P12X12_1000X1000X150
pins: 1 L3, 2 M3, 3 M4, 4 L4, 5 L5, 6 M5, 7 A9, 8 B9, 9 B8, 10 A10, 11 L1, 12 M1, 13 M2, 14 L2, 15 G1, 16 G2, 17 H2, 18 H1, 19 E1, 20 E2, 21 F2, 22 F1, 23 C4, 24 C5, 25 H3, 26 J3, 27 H11, 28 E3, 29 L11, 30 M11, 31 E12, 32 D12, 33 C11, 34 C12, 35 A6, 36 B7, 37 A7, 38 A8, 39 A11, 40 B12, 41 B11, 42 A12, 43 D1, 44 D2, 45 L6, 46 M6, 47 C2, 48 C1, 49 M9, 50 H12, 51 J11, 52 J12, 53 L9, 54 L8, 55 M8, 56 K4, 57 K1, 58 K2, 59 J1, 60 J2, 61 K3, 62 M7, 63 L7, 64 C10, 65 C9, 66 C8, 67 D11, 68 D10, 69 C6, 70 C7, 71 A5, 72 B5, 73 K7, 74 G12, 75 K8, 76 K9, 77 H10, 78 G10, 79 E10, 80 G11, 81 K5, 82 K6, 83 L10, 84 K10, 85 J10, 86 F10, 87 F11, 88 B6, 89 F12, 90 C3, 91 D3, 92 F3, 93 G3, 94 M10, 95 M12, 96 K11, 97 K12, 98 L12, 99 E11, 100 B10, 101 B1, 102 A1, 103 B3, 104 B2, 105 A2, 106 A3, 107 B4, 108 A4

## LM3S1332-IQC
designator ?
Stellaris ARM Cortex-M3 Microcontroller; Manufacturer #1: Luminary Micro; LMI Class: Fury; Designator: U; Part Number: LM3S1332-IQC
footprint QFP50P1600X1600X160-100N
pins: 1 ADC0, 2 ADC1, 3 VDDA, 4 GNDA, 5 ADC2, 6 PE4, 7 LDO, 8 VDD, 9 GND, 10 PD0, 11 PD1, 12 PD2/U1RX, 13 PD3/U1TX, 14 VDD25, 15 GND, 16 PG3, 17 PG2, 18 PG1, 19 PG0, 20 VDD, 21 GND, 22 PC7/C2-, 23 PC6/C2+, 24 PC5/C1+, 25 PC4/CCP5, 26 PA0/U0RX, 27 PA1/U0TX, 28 PA2/SSI0CLK, 29 PA3/SSI0FSS, 30 PA4/SSI0RX, 31 PA5/SSI0TX, 32 VDD, 33 GND, 34 PA6/CCP1, 35 PA7/CCP4, 36 PG7, 37 PG6, 38 VDD25, 39 GND, 40 PG5, 41 PG4, 42 PF7, 43 PF6, 44 VDD, 45 GND, 46 PF5, 47 PF0, 48 OSC0, 49 OSC1, 50 WAKEN, 51 HIBN, 52 XOSC0, 53 XOSC1, 54 GND, 55 VBAT, 56 VDD, 57 GND, 58 PF4, 59 PF3, 60 PF2, 61 PF1, 62 VDD25, 63 GND, 64 RSTN, 65 CMOD0, 66 PB0/CCP0, 67 PB1/CCP2, 68 VDD, 69 GND, 70 PB2, 71 PB3, 72 PE0, 73 PE1, 74 PE2, 75 PE3, 76 CMOD1, 77 PC3/TDO/SWO, 78 PC2/TDI, 79 PC1/TMS/SWDIO, 80 PC0/TCK/SWCLK, 81 VDD, 82 GND, 83 PH3, 84 PH2, 85 PH1/CCP7, 86 PH0/CCP6, 87 GND, 88 VDD25, 89 PB7/TRSTN, 90 PB6/C0+, 91 PB5/C1-, 92 PB4/C0-, 93 VDD, 94 GND, 95 PD4/CCP3, 96 PD5, 97 GNDA, 98 VDDA, 99 PD6, 100 PD7/C0O